# Altium schematic symbol library dungvh03-CERN_Connectors.SchLib: 576 symbols (part 7 of 8)
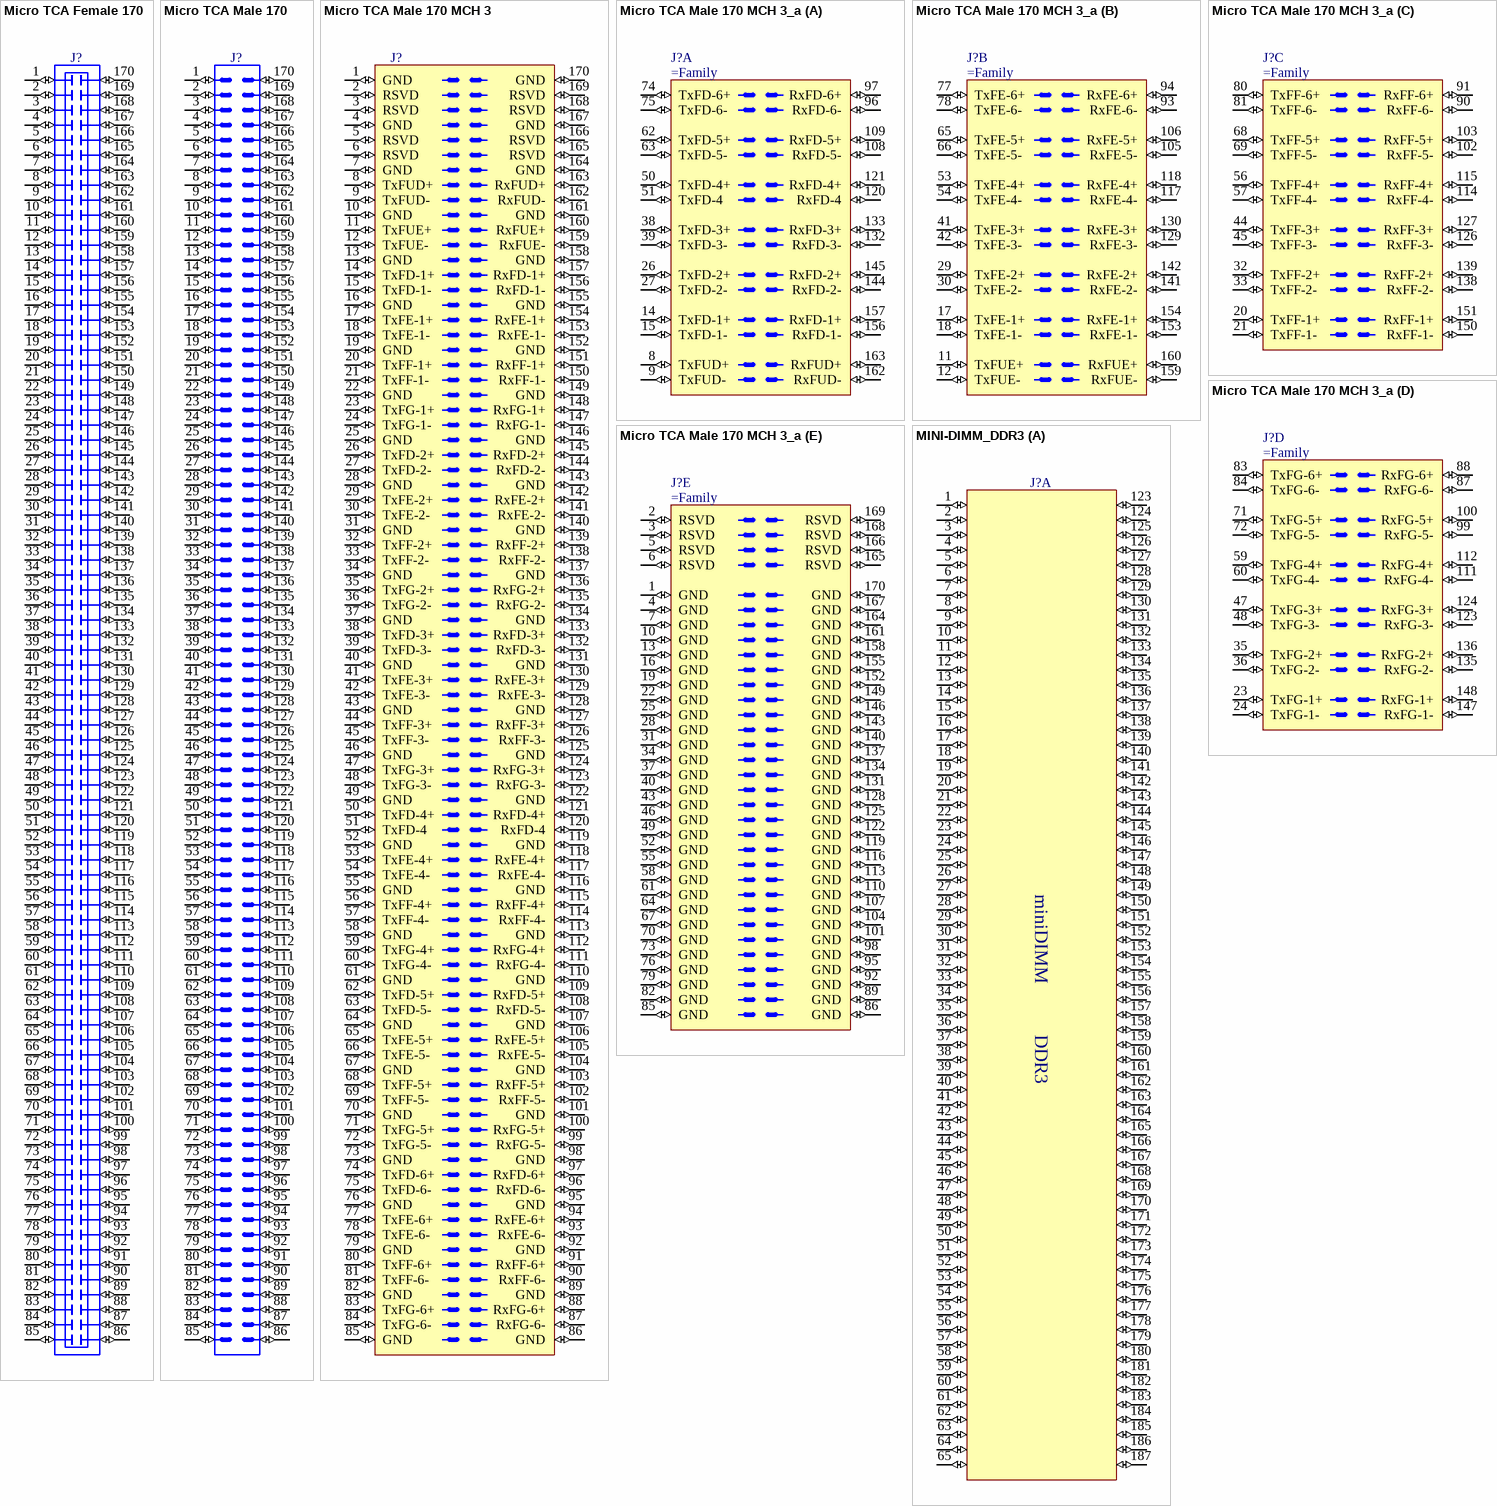
[diagram p81: symbols Micro TCA Female 170 to MINI-DIMM_DDR3]

## Micro TCA Male 170 MCH 3
designator J?
170 Contact MicroTCA Carrier Hub (MCH) Board Edge Connector 3
pins: 1 GND (io), 2 RSVD (io), 3 RSVD (io), 4 GND (io), 5 RSVD (io), 6 RSVD (io), 7 GND (io), 8 TxFUD+ (io), 9 TxFUD- (io), 10 GND (io), 11 TxFUE+ (io), 12 TxFUE- (io), 13 GND (io), 14 TxFD-1+ (io), 15 TxFD-1- (io), 16 GND (io), 17 TxFE-1+ (io), 18 TxFE-1- (io), 19 GND (io), 20 TxFF-1+ (io), 21 TxFF-1- (io), 22 GND (io), 23 TxFG-1+ (io), 24 TxFG-1- (io), 25 GND (io), 26 TxFD-2+ (io), 27 TxFD-2- (io), 28 GND (io), 29 TxFE-2+ (io), 30 TxFE-2- (io), 31 GND (io), 32 TxFF-2+ (io), 33 TxFF-2- (io), 34 GND (io), 35 TxFG-2+ (io), 36 TxFG-2- (io), 37 GND (io), 38 TxFD-3+ (io), 39 TxFD-3- (io), 40 GND (io), 41 TxFE-3+ (io), 42 TxFE-3- (io), 43 GND (io), 44 TxFF-3+ (io), 45 TxFF-3- (io), 46 GND (io), 47 TxFG-3+ (io), 48 TxFG-3- (io), 49 GND (io), 50 TxFD-4+ (io), 51 TxFD-4 (io), 52 GND (io), 53 TxFE-4+ (io), 54 TxFE-4- (io), 55 GND (io), 56 TxFF-4+ (io), 57 TxFF-4- (io), 58 GND (io), 59 TxFG-4+ (io), 60 TxFG-4- (io), 61 GND (io), 62 TxFD-5+ (io), 63 TxFD-5- (io), 64 GND (io), 65 TxFE-5+ (io), 66 TxFE-5- (io), 67 GND (io), 68 TxFF-5+ (io), 69 TxFF-5- (io), 70 GND (io), 71 TxFG-5+ (io), 72 TxFG-5- (io), 73 GND (io), 74 TxFD-6+ (io), 75 TxFD-6- (io), 76 GND (io), 77 TxFE-6+ (io), 78 TxFE-6- (io), 79 GND (io), 80 TxFF-6+ (io), 81 TxFF-6- (io), 82 GND (io), 83 TxFG-6+ (io), 84 TxFG-6- (io), 85 GND (io), 86 GND (io), 87 RxFG-6- (io), 88 RxFG-6+ (io), 89 GND (io), 90 RxFF-6- (io), 91 RxFF-6+ (io), 92 GND (io), 93 RxFE-6- (io), 94 RxFE-6+ (io), 95 GND (io), 96 RxFD-6- (io), 97 RxFD-6+ (io), 98 GND (io), 99 RxFG-5- (io), 100 RxFG-5+ (io), 101 GND (io), 102 RxFF-5- (io), 103 RxFF-5+ (io), 104 GND (io), 105 RxFE-5- (io), 106 RxFE-5+ (io), 107 GND (io), 108 RxFD-5- (io), 109 RxFD-5+ (io), 110 GND (io), 111 RxFG-4- (io), 112 RxFG-4+ (io), 113 GND (io), 114 RxFF-4- (io), 115 RxFF-4+ (io), 116 GND (io), 117 RxFE-4- (io), 118 RxFE-4+ (io), 119 GND (io), 120 RxFD-4 (io), 121 RxFD-4+ (io), 122 GND (io), 123 RxFG-3- (io), 124 RxFG-3+ (io), 125 GND (io), 126 RxFF-3- (io), 127 RxFF-3+ (io), 128 GND (io), 129 RxFE-3- (io), 130 RxFE-3+ (io), 131 GND (io), 132 RxFD-3- (io), 133 RxFD-3+ (io), 134 GND (io), 135 RxFG-2- (io), 136 RxFG-2+ (io), 137 GND (io), 138 RxFF-2- (io), 139 RxFF-2+ (io), 140 GND (io), 141 RxFE-2- (io), 142 RxFE-2+ (io), 143 GND (io), 144 RxFD-2- (io), 145 RxFD-2+ (io), 146 GND (io), 147 RxFG-1- (io), 148 RxFG-1+ (io), 149 GND (io), 150 RxFF-1- (io), 151 RxFF-1+ (io), 152 GND (io), 153 RxFE-1- (io), 154 RxFE-1+ (io), 155 GND (io), 156 RxFD-1- (io), 157 RxFD-1+ (io), 158 GND (io), 159 RxFUE- (io), 160 RxFUE+ (io), 161 GND (io), 162 RxFUD- (io), 163 RxFUD+ (io), 164 GND (io), 165 RSVD (io), 166 RSVD (io), 167 GND (io), 168 RSVD (io), 169 RSVD (io), 170 GND (io)

## Micro TCA Male 170 MCH 3_a
designator J?
170 Contact MicroTCA Carrier Hub (MCH) Board Edge Connector 3
part A pins: 8 TxFUD+ (io), 9 TxFUD- (io), 14 TxFD-1+ (io), 15 TxFD-1- (io), 26 TxFD-2+ (io), 27 TxFD-2- (io), 38 TxFD-3+ (io), 39 TxFD-3- (io), 50 TxFD-4+ (io), 51 TxFD-4 (io), 62 TxFD-5+ (io), 63 TxFD-5- (io), 74 TxFD-6+ (io), 75 TxFD-6- (io), 96 RxFD-6- (io), 97 RxFD-6+ (io), 108 RxFD-5- (io), 109 RxFD-5+ (io), 120 RxFD-4 (io), 121 RxFD-4+ (io), 132 RxFD-3- (io), 133 RxFD-3+ (io), 144 RxFD-2- (io), 145 RxFD-2+ (io), 156 RxFD-1- (io), 157 RxFD-1+ (io), 162 RxFUD- (io), 163 RxFUD+ (io)
part B pins: 11 TxFUE+ (io), 12 TxFUE- (io), 17 TxFE-1+ (io), 18 TxFE-1- (io), 29 TxFE-2+ (io), 30 TxFE-2- (io), 41 TxFE-3+ (io), 42 TxFE-3- (io), 53 TxFE-4+ (io), 54 TxFE-4- (io), 65 TxFE-5+ (io), 66 TxFE-5- (io), 77 TxFE-6+ (io), 78 TxFE-6- (io), 93 RxFE-6- (io), 94 RxFE-6+ (io), 105 RxFE-5- (io), 106 RxFE-5+ (io), 117 RxFE-4- (io), 118 RxFE-4+ (io), 129 RxFE-3- (io), 130 RxFE-3+ (io), 141 RxFE-2- (io), 142 RxFE-2+ (io), 153 RxFE-1- (io), 154 RxFE-1+ (io), 159 RxFUE- (io), 160 RxFUE+ (io)
part C pins: 20 TxFF-1+ (io), 21 TxFF-1- (io), 32 TxFF-2+ (io), 33 TxFF-2- (io), 44 TxFF-3+ (io), 45 TxFF-3- (io), 56 TxFF-4+ (io), 57 TxFF-4- (io), 68 TxFF-5+ (io), 69 TxFF-5- (io), 80 TxFF-6+ (io), 81 TxFF-6- (io), 90 RxFF-6- (io), 91 RxFF-6+ (io), 102 RxFF-5- (io), 103 RxFF-5+ (io), 114 RxFF-4- (io), 115 RxFF-4+ (io), 126 RxFF-3- (io), 127 RxFF-3+ (io), 138 RxFF-2- (io), 139 RxFF-2+ (io), 150 RxFF-1- (io), 151 RxFF-1+ (io)
part D pins: 23 TxFG-1+ (io), 24 TxFG-1- (io), 35 TxFG-2+ (io), 36 TxFG-2- (io), 47 TxFG-3+ (io), 48 TxFG-3- (io), 59 TxFG-4+ (io), 60 TxFG-4- (io), 71 TxFG-5+ (io), 72 TxFG-5- (io), 83 TxFG-6+ (io), 84 TxFG-6- (io), 87 RxFG-6- (io), 88 RxFG-6+ (io), 99 RxFG-5- (io), 100 RxFG-5+ (io), 111 RxFG-4- (io), 112 RxFG-4+ (io), 123 RxFG-3- (io), 124 RxFG-3+ (io), 135 RxFG-2- (io), 136 RxFG-2+ (io), 147 RxFG-1- (io), 148 RxFG-1+ (io)
part E pins: 1 GND (io), 2 RSVD (io), 3 RSVD (io), 4 GND (io), 5 RSVD (io), 6 RSVD (io), 7 GND (io), 10 GND (io), 13 GND (io), 16 GND (io), 19 GND (io), 22 GND (io), 25 GND (io), 28 GND (io), 31 GND (io), 34 GND (io), 37 GND (io), 40 GND (io), 43 GND (io), 46 GND (io), 49 GND (io), 52 GND (io), 55 GND (io), 58 GND (io), 61 GND (io), 64 GND (io), 67 GND (io), 70 GND (io), 73 GND (io), 76 GND (io), 79 GND (io), 82 GND (io), 85 GND (io), 86 GND (io), 89 GND (io), 92 GND (io), 95 GND (io), 98 GND (io), 101 GND (io), 104 GND (io), 107 GND (io), 110 GND (io), 113 GND (io), 116 GND (io), 119 GND (io), 122 GND (io), 125 GND (io), 128 GND (io), 131 GND (io), 134 GND (io), 137 GND (io), 140 GND (io), 143 GND (io), 146 GND (io), 149 GND (io), 152 GND (io), 155 GND (io), 158 GND (io), 161 GND (io), 164 GND (io), 165 RSVD (io), 166 RSVD (io), 167 GND (io), 168 RSVD (io), 169 RSVD (io), 170 GND (io)

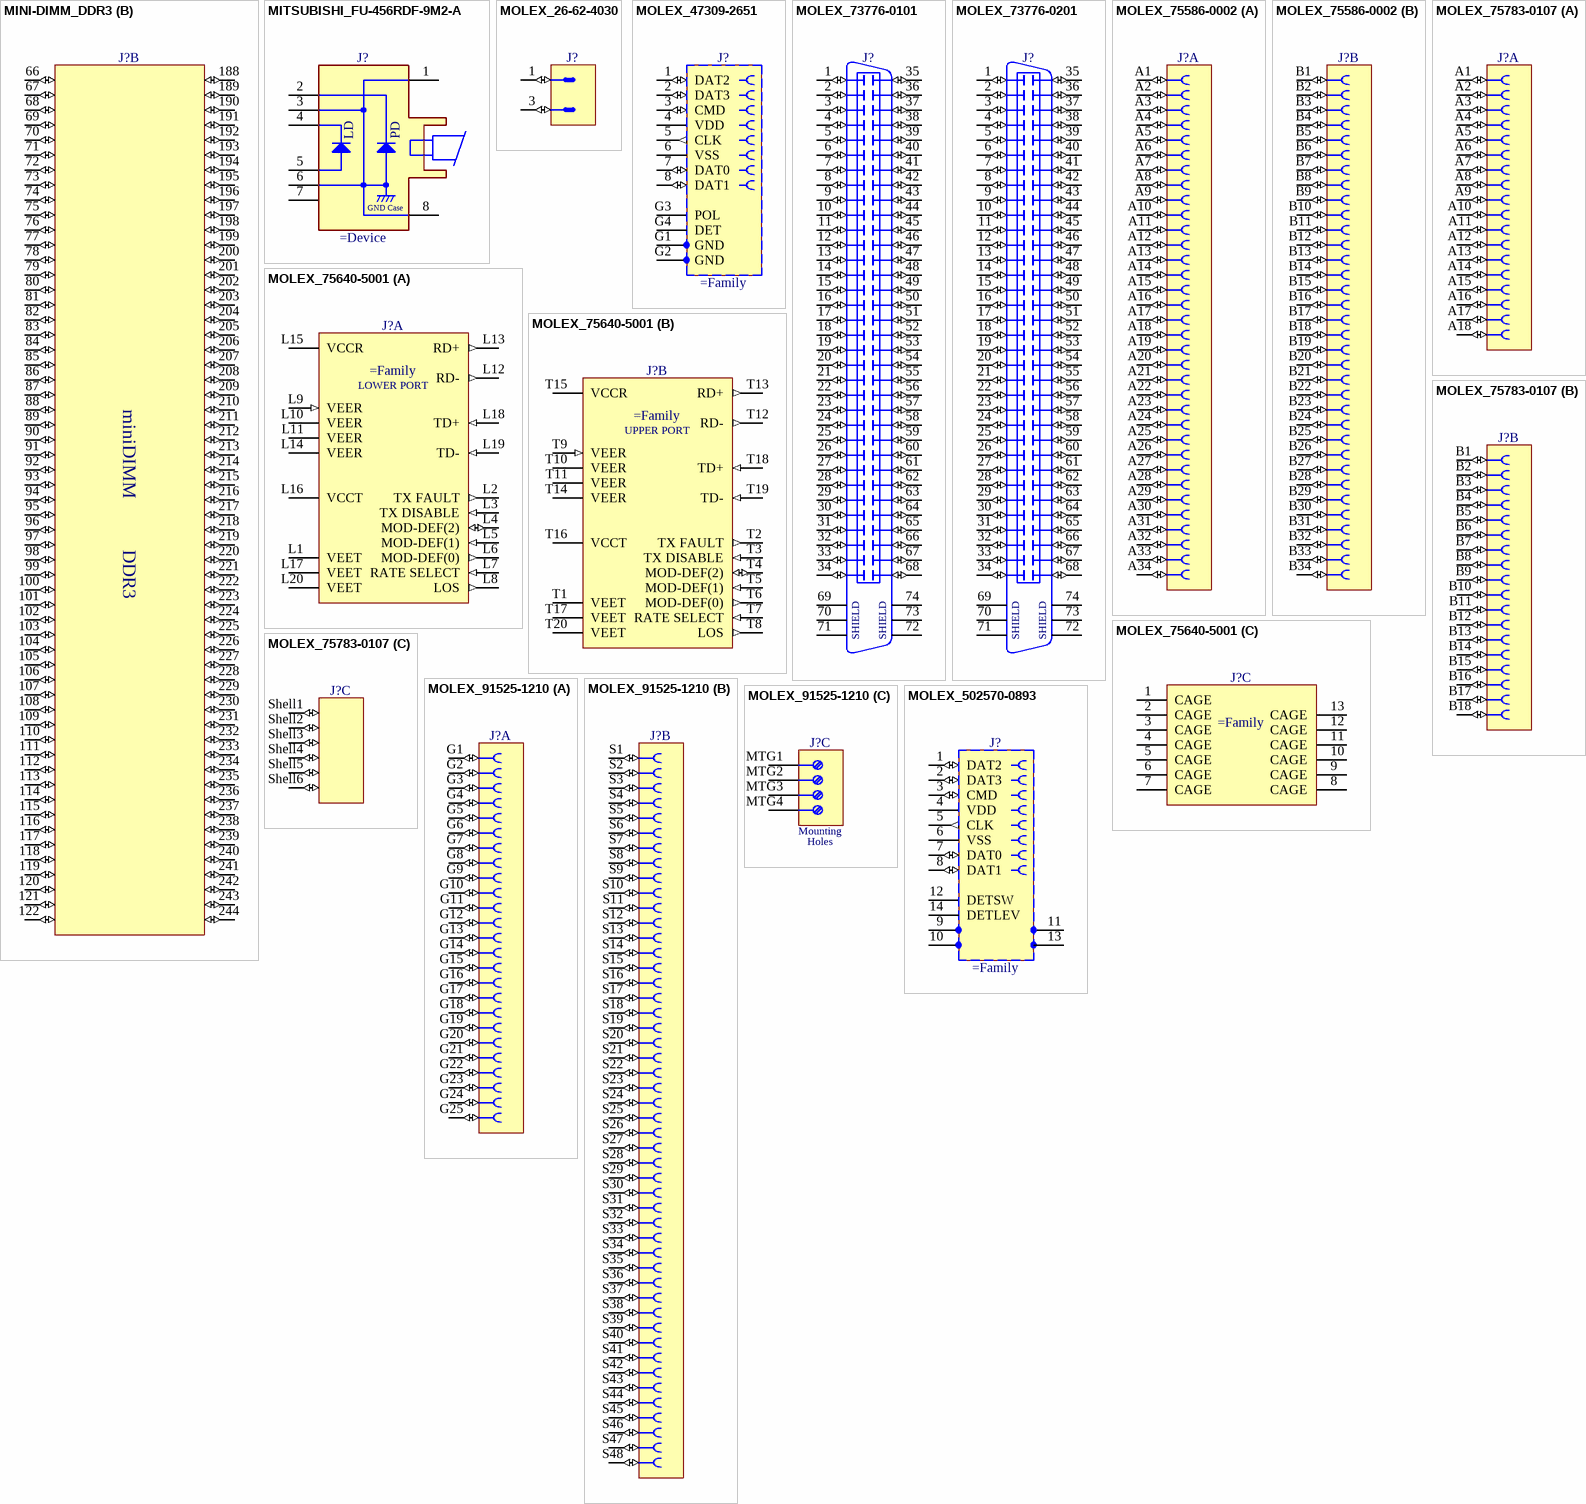
[diagram p62: symbols MINI-DIMM_DDR3 to MOLEX_502570-0893]

## MINI-DIMM_DDR3
designator J?
244 Contacts miniDIMM DDR3 (Jedec MO-244)
part A pins: 1 VTT (io), 2 VREFDQ (io), 3 VSS (io), 4 DQ0 (io), 5 DQ1 (io), 6 VSS (io), 7 ~{DQS0} (io), 8 DQS0 (io), 9 VSS (io), 10 DQ2 (io), 11 DQ3 (io), 12 VSS (io), 13 DQ8 (io), 14 DQ9 (io), 15 VSS (io), 16 ~{DQS1} (io), 17 DQS1 (io), 18 VSS (io), 19 DQ10 (io), 20 DQ11 (io), 21 VSS (io), 22 DQ16 (io), 23 DQ17 (io), 24 VSS (io), 25 ~{DQS2} (io), 26 DQS2 (io), 27 VSS (io), 28 DQ18 (io), 29 DQ19 (io), 30 VSS (io), 31 DQ24 (io), 32 DQ25 (io), 33 VSS (io), 34 ~{DQS3} (io), 35 DQS3 (io), 36 VSS (io), 37 DQ26 (io), 38 DQ27 (io), 39 VSS (io), 40 CB0 (io), 41 CB1 (io), 42 VSS (io), 43 ~{DQS8} (io), 44 DQS8 (io), 45 VSS (io), 46 CB2 (io), 47 CB3 (io), 48 VSS (io), 49 NC (io), 50 ~{RESET} (io), 51 CKE0 (io), 52 VDD (io), 53 BA2 (io), 54 NC (io), 55 VDD (io), 56 A11 (io), 57 A7 (io), 58 VDD (io), 59 A5 (io), 60 A4 (io), 61 VDD (io), 62 A2 (io), 63 VDD (io), 64 CK1 (io), 65 ~{CK1} (io), 123 VTT (io), 124 VSS (io), 125 DQ4 (io), 126 DQ5 (io), 127 VSS (io), 128 DM0 (io), 129 NC (io), 130 VSS (io), 131 DQ6 (io), 132 DQ7 (io), 133 VSS (io), 134 DQ12 (io), 135 DQ13 (io), 136 VSS (io), 137 DM1 (io), 138 NC (io), 139 VSS (io), 140 DQ14 (io), 141 DQ15 (io), 142 VSS (io), 143 DQ20 (io), 144 DQ21 (io), 145 VSS (io), 146 DM2 (io), 147 NC (io), 148 VSS (io), 149 DQ22 (io), 150 DQ23 (io), 151 VSS (io), 152 DQ28 (io), 153 DQ29 (io), 154 VSS (io), 155 DM3 (io), 156 NC (io), 157 VSS (io), 158 DQ30 (io), 159 DQ31 (io), 160 VSS (io), 161 CB4 (io), 162 CB5 (io), 163 VSS (io), 164 DM8 (io), 165 NC (io), 166 VSS (io), 167 CB6 (io), 168 CB7 (io), 169 VSS (io), 170 NC (io), 171 NC (io), 172 CKE1 (io), 173 VDD (io), 174 A15 (io), 175 A14 (io), 176 VDD (io), 177 A12 (io), 178 A9 (io), 179 VDD (io), 180 A8 (io), 181 A6 (io), 182 VDD (io), 183 A3 (io), 184 A1 (io), 185 VDD (io), 186 CK0 (io), 187 ~{CK0} (io)
part B pins: 66 VDD (io), 67 VREFCA (io), 68 VDD (io), 69 NC (io), 70 VDD (io), 71 A10 (io), 72 BA0 (io), 73 VDD (io), 74 ~{WE} (io), 75 ~{CAS} (io), 76 VDD (io), 77 ~{CS1} (io), 78 ODT1 (io), 79 VDD (io), 80 NC (io), 81 NC (io), 82 VSS (io), 83 DQ32 (io), 84 DQ33 (io), 85 VSS (io), 86 ~{DQS4} (io), 87 DQS4 (io), 88 VSS (io), 89 DQ34 (io), 90 DQ35 (io), 91 VSS (io), 92 DQ40 (io), 93 DQ41 (io), 94 VSS (io), 95 ~{DQS5} (io), 96 DQS5 (io), 97 VSS (io), 98 DQ42 (io), 99 DQ43 (io), 100 VSS (io), 101 DQ48 (io), 102 DQ49 (io), 103 VSS (io), 104 ~{DQS6} (io), 105 DQS6 (io), 106 VSS (io), 107 DQ50 (io), 108 DQ51 (io), 109 VSS (io), 110 DQ56 (io), 111 DQ57 (io), 112 VSS (io), 113 ~{DQS7} (io), 114 DQS7 (io), 115 VSS (io), 116 DQ58 (io), 117 DQ59 (io), 118 VSS (io), 119 SA0 (io), 120 SCL (io), 121 SA2 (io), 122 VTT (io), 188 VDD (io), 189 VDD (io), 190 ~{EVENT} (io), 191 A0 (io), 192 VDD (io), 193 BA1 (io), 194 VDD (io), 195 ~{RAS} (io), 196 ~{CS0} (io), 197 VDD (io), 198 ODT0 (io), 199 A13 (io), 200 VDD (io), 201 NC (io), 202 NC (io), 203 VSS (io), 204 DQ36 (io), 205 DQ37 (io), 206 VSS (io), 207 DM4 (io), 208 NC (io), 209 VSS (io), 210 DQ38 (io), 211 DQ39 (io), 212 VSS (io), 213 DQ44 (io), 214 DQ45 (io), 215 VSS (io), 216 DM5 (io), 217 NC (io), 218 VSS (io), 219 DQ46 (io), 220 DQ47 (io), 221 VSS (io), 222 DQ52 (io), 223 DQ53 (io), 224 VSS (io), 225 DM6 (io), 226 NC (io), 227 VSS (io), 228 DQ54 (io), 229 DQ55 (io), 230 VSS (io), 231 DQ60 (io), 232 DQ61 (io), 233 VSS (io), 234 DM7 (io), 235 NC (io), 236 VSS (io), 237 DQ62 (io), 238 DQ63 (io), 239 VSS (io), 240 VDDSPD (io), 241 SA1 (io), 242 SDA (io), 243 VSS (io), 244 VTT (io)
1 alternate drawing of the same symbol
part A text: miniDIMM; DDR3
part B text: miniDIMM; DDR3

## MITSUBISHI_FU-456RDF-9M2-A
designator J?
10Gbps DFB-LD Transmitter Optical Sub Assembly (TOSA) Laser Modules
pins: 1, 2, 3, 4, 5, 6, 7, 8
text: LD; PD; GND Case

## MOLEX_26-62-4030
designator J?
Connector 3 Male Without Contact Number 2, MOLEX Serie KK
pins: 1 (io), 3 (io)
1 alternate drawing of the same symbol

## MOLEX_47309-2651
designator J?
MicroSD Card Header with Detect Switch
pins: 1 DAT2 (io), 2 DAT3 (io), 3 CMD (io), 4 VDD (power), 5 CLK (out), 6 VSS (power), 7 DAT0 (io), 8 DAT1 (io), G1 GND, G2 GND, G3 POL, G4 DET

## MOLEX_73776-0101
designator J?
0.80mm Pitch, 68 Contacts, Ultra+ VHDCI Surface Mount Vertical Receptacle
pins: 1 (io), 2 (io), 3 (io), 4 (io), 5 (io), 6 (io), 7 (io), 8 (io), 9 (io), 10 (io), 11 (io), 12 (io), 13 (io), 14 (io), 15 (io), 16 (io), 17 (io), 18 (io), 19 (io), 20 (io), 21 (io), 22 (io), 23 (io), 24 (io), 25 (io), 26 (io), 27 (io), 28 (io), 29 (io), 30 (io), 31 (io), 32 (io), 33 (io), 34 (io), 35 (io), 36 (io), 37 (io), 38 (io), 39 (io), 40 (io), 41 (io), 42 (io), 43 (io), 44 (io), 45 (io), 46 (io), 47 (io), 48 (io), 49 (io), 50 (io), 51 (io), 52 (io), 53 (io), 54 (io), 55 (io), 56 (io), 57 (io), 58 (io), 59 (io), 60 (io), 61 (io), 62 (io), 63 (io), 64 (io), 65 (io), 66 (io), 67 (io), 68 (io), 69, 70, 71, 72, 73, 74
text: SHIELD

## MOLEX_73776-0201
designator J?
0.80mm Pitch, 68 Contacts, Ultra+ VHDCI Surface Mount Vertical Receptacle
pins: 1 (io), 2 (io), 3 (io), 4 (io), 5 (io), 6 (io), 7 (io), 8 (io), 9 (io), 10 (io), 11 (io), 12 (io), 13 (io), 14 (io), 15 (io), 16 (io), 17 (io), 18 (io), 19 (io), 20 (io), 21 (io), 22 (io), 23 (io), 24 (io), 25 (io), 26 (io), 27 (io), 28 (io), 29 (io), 30 (io), 31 (io), 32 (io), 33 (io), 34 (io), 35 (io), 36 (io), 37 (io), 38 (io), 39 (io), 40 (io), 41 (io), 42 (io), 43 (io), 44 (io), 45 (io), 46 (io), 47 (io), 48 (io), 49 (io), 50 (io), 51 (io), 52 (io), 53 (io), 54 (io), 55 (io), 56 (io), 57 (io), 58 (io), 59 (io), 60 (io), 61 (io), 62 (io), 63 (io), 64 (io), 65 (io), 66 (io), 67 (io), 68 (io), 69, 70, 71, 72, 73, 74
text: SHIELD

## MOLEX_75586-0002
designator J?
68 Circuits, Pitch 0.8mm, External Application Right Angle iPass™ I/O Surface Mount Receptacle
part A pins: A1 (io), A2 (io), A3 (io), A4 (io), A5 (io), A6 (io), A7 (io), A8 (io), A9 (io), A10 (io), A11 (io), A12 (io), A13 (io), A14 (io), A15 (io), A16 (io), A17 (io), A18 (io), A19 (io), A20 (io), A21 (io), A22 (io), A23 (io), A24 (io), A25 (io), A26 (io), A27 (io), A28 (io), A29 (io), A30 (io), A31 (io), A32 (io), A33 (io), A34 (io)
part B pins: B1 (io), B2 (io), B3 (io), B4 (io), B5 (io), B6 (io), B7 (io), B8 (io), B9 (io), B10 (io), B11 (io), B12 (io), B13 (io), B14 (io), B15 (io), B16 (io), B17 (io), B18 (io), B19 (io), B20 (io), B21 (io), B22 (io), B23 (io), B24 (io), B25 (io), B26 (io), B27 (io), B28 (io), B29 (io), B30 (io), B31 (io), B32 (io), B33 (io), B34 (io)

## MOLEX_75640-5001
designator J?
Dual 20 Positions Stacked SFP (Small Form-factor Pluggable) Receptacles with 4 Light Pipes, Medium Height Assembly, Press Fit Tails
part A pins: L1 VEET (power), L2 TX FAULT (out), L3 TX DISABLE (in), L4 MOD-DEF(2) (io), L5 MOD-DEF(1) (in), L6 MOD-DEF(0) (out), L7 RATE SELECT (in), L8 LOS (out), L9 VEER (in), L10 VEER (power), L11 VEER (power), L12 RD- (out), L13 RD+ (out), L14 VEER (power), L15 VCCR (power), L16 VCCT (power), L17 VEET (power), L18 TD+ (in), L19 TD- (in), L20 VEET (power)
part B pins: T1 VEET (power), T2 TX FAULT (out), T3 TX DISABLE (in), T4 MOD-DEF(2) (io), T5 MOD-DEF(1) (in), T6 MOD-DEF(0) (out), T7 RATE SELECT (in), T8 LOS (out), T9 VEER (in), T10 VEER (power), T11 VEER (power), T12 RD- (out), T13 RD+ (out), T14 VEER (power), T15 VCCR (power), T16 VCCT (power), T17 VEET (power), T18 TD+ (in), T19 TD- (in), T20 VEET (power)
part C pins: 1 CAGE (power), 2 CAGE (power), 3 CAGE (power), 4 CAGE (power), 5 CAGE (power), 6 CAGE (power), 7 CAGE (power), 8 CAGE (power), 9 CAGE (power), 10 CAGE (power), 11 CAGE (power), 12 CAGE (power), 13 CAGE (power)
part A text: LOWER PORT
part B text: UPPER PORT

## MOLEX_75783-0107
designator J?
36 Circuit, Right Angle , Internal Assembly, iPass™ I/O Surface Mount Receptacle with Left Key Shell
part A pins: A1 (io), A2 (io), A3 (io), A4 (io), A5 (io), A6 (io), A7 (io), A8 (io), A9 (io), A10 (io), A11 (io), A12 (io), A13 (io), A14 (io), A15 (io), A16 (io), A17 (io), A18 (io)
part B pins: B1 (io), B2 (io), B3 (io), B4 (io), B5 (io), B6 (io), B7 (io), B8 (io), B9 (io), B10 (io), B11 (io), B12 (io), B13 (io), B14 (io), B15 (io), B16 (io), B17 (io), B18 (io)
part C pins: Shell1 (io), Shell2 (io), Shell3 (io), Shell4 (io), Shell5 (io), Shell6 (io)

## MOLEX_91525-1210
designator J?
LaneLink I/O Latch Receptacle, 12 Lane, Cx4 Ethernet, 24 Circuits, 2 Screw Holes
part A pins: G1 (io), G2 (io), G3 (io), G4 (io), G5 (io), G6 (io), G7 (io), G8 (io), G9 (io), G10 (io), G11 (io), G12 (io), G13 (io), G14 (io), G15 (io), G16 (io), G17 (io), G18 (io), G19 (io), G20 (io), G21 (io), G22 (io), G23 (io), G24 (io), G25 (io)
part B pins: S1 (io), S2 (io), S3 (io), S4 (io), S5 (io), S6 (io), S7 (io), S8 (io), S9 (io), S10 (io), S11 (io), S12 (io), S13 (io), S14 (io), S15 (io), S16 (io), S17 (io), S18 (io), S19 (io), S20 (io), S21 (io), S22 (io), S23 (io), S24 (io), S25 (io), S26 (io), S27 (io), S28 (io), S29 (io), S30 (io), S31 (io), S32 (io), S33 (io), S34 (io), S35 (io), S36 (io), S37 (io), S38 (io), S39 (io), S40 (io), S41 (io), S42 (io), S43 (io), S44 (io), S45 (io), S46 (io), S47 (io), S48 (io)
part C pins: MTG1, MTG2, MTG3, MTG4
part C text: Mounting; Holes

## MOLEX_502570-0893
designator J?
Connector MicroSD 8 Pin
pins: 1 DAT2 (io), 2 DAT3 (io), 3 CMD (io), 4 VDD (power), 5 CLK (out), 6 VSS (power), 7 DAT0 (io), 8 DAT1 (io), 9, 10, 11, 12 DETSW, 13, 14 DETLEV

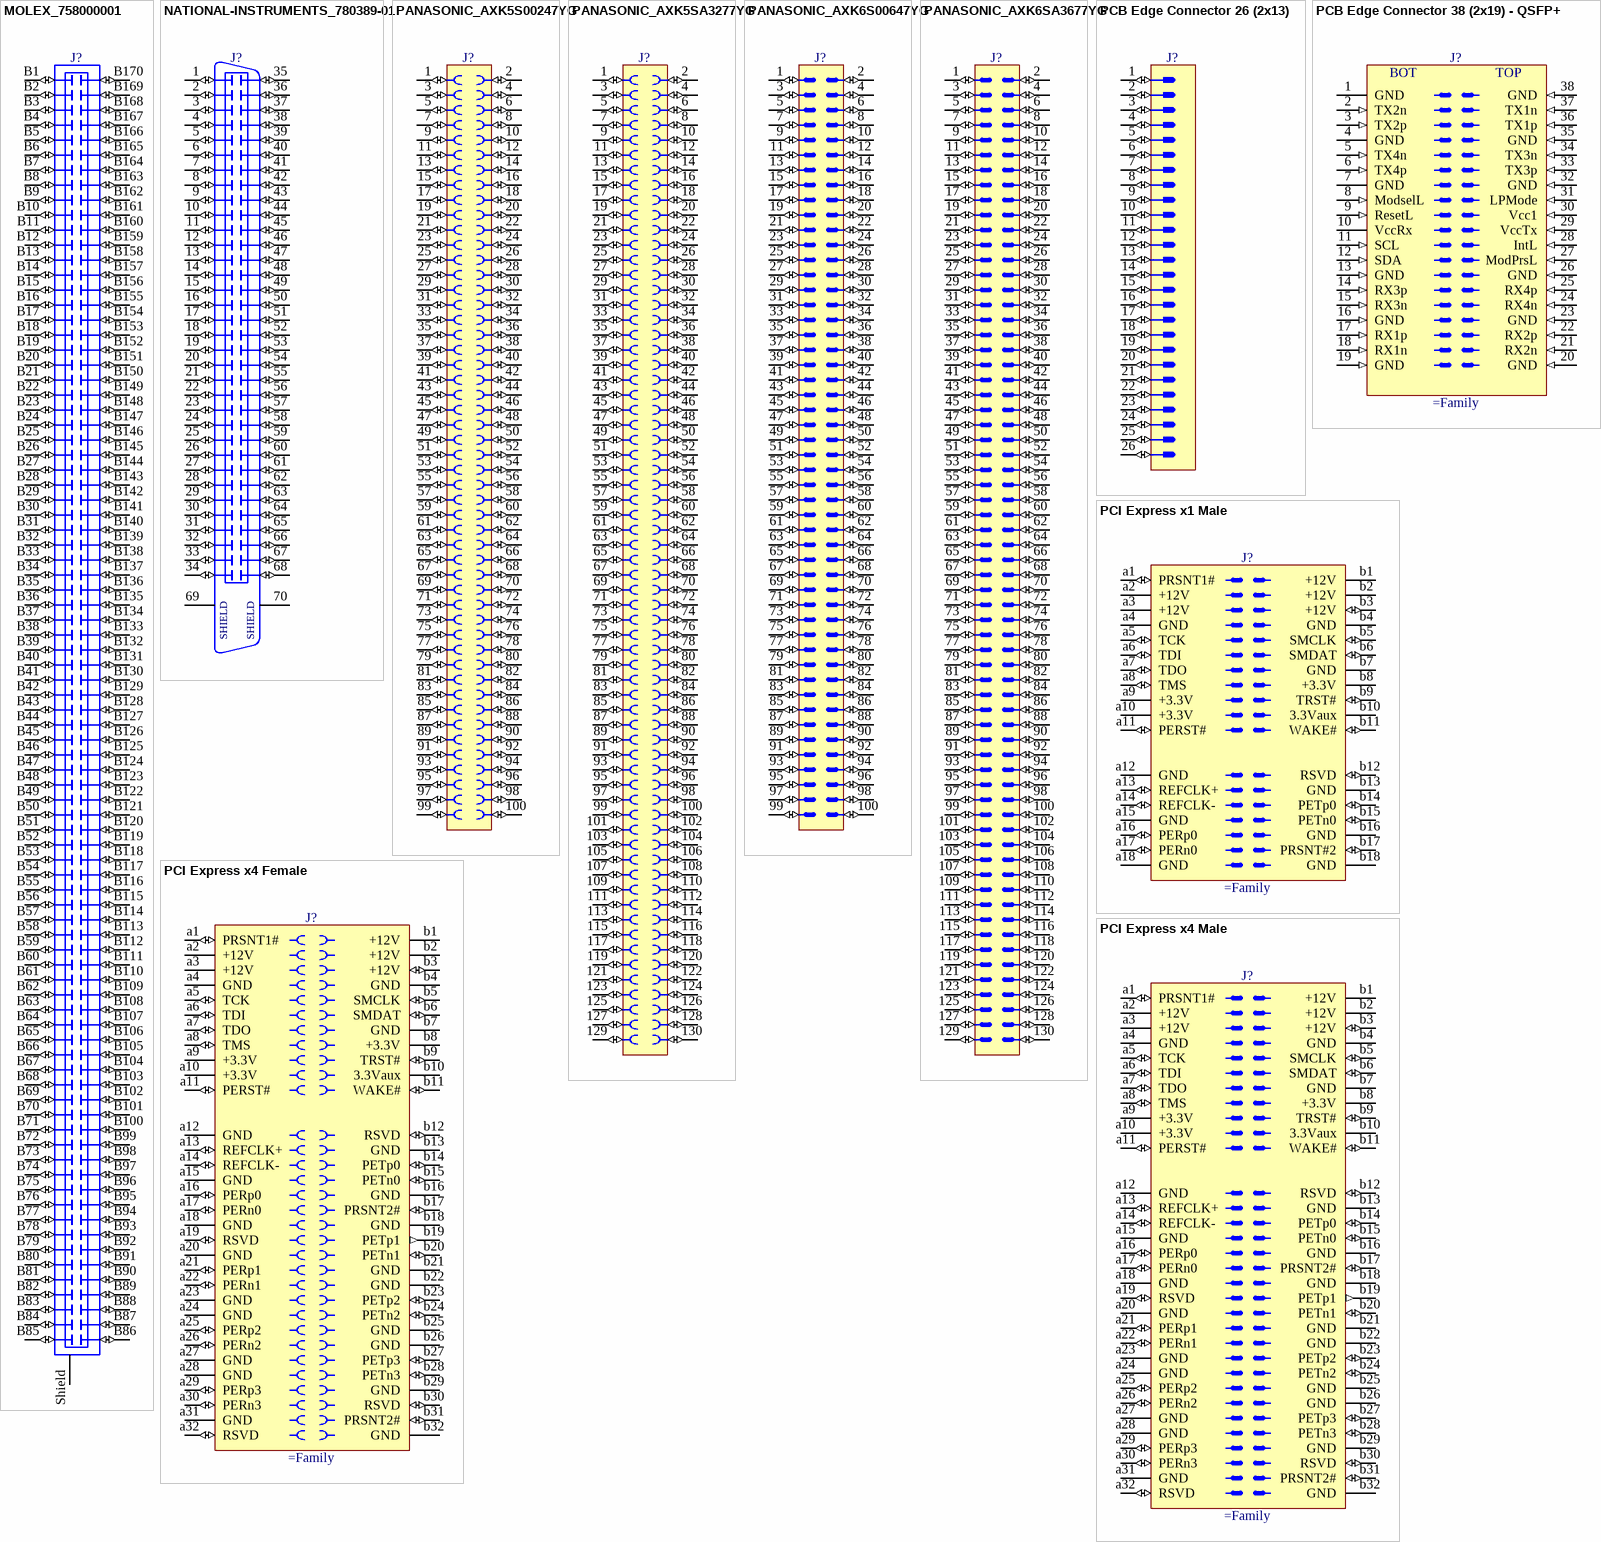
[diagram p63: symbols MOLEX_758000001 to PCI Express x4 Male]

## MOLEX_758000001
designator J?
Advanced Mezzanine Card Connector, AMC B+ Style, 170 Circuit
pins: B1 (io), B2 (io), B3 (io), B4 (io), B5 (io), B6 (io), B7 (io), B8 (io), B9 (io), B10 (io), B11 (io), B12 (io), B13 (io), B14 (io), B15 (io), B16 (io), B17 (io), B18 (io), B19 (io), B20 (io), B21 (io), B22 (io), B23 (io), B24 (io), B25 (io), B26 (io), B27 (io), B28 (io), B29 (io), B30 (io), B31 (io), B32 (io), B33 (io), B34 (io), B35 (io), B36 (io), B37 (io), B38 (io), B39 (io), B40 (io), B41 (io), B42 (io), B43 (io), B44 (io), B45 (io), B46 (io), B47 (io), B48 (io), B49 (io), B50 (io), B51 (io), B52 (io), B53 (io), B54 (io), B55 (io), B56 (io), B57 (io), B58 (io), B59 (io), B60 (io), B61 (io), B62 (io), B63 (io), B64 (io), B65 (io), B66 (io), B67 (io), B68 (io), B69 (io), B70 (io), B71 (io), B72 (io), B73 (io), B74 (io), B75 (io), B76 (io), B77 (io), B78 (io), B79 (io), B80 (io), B81 (io), B82 (io), B83 (io), B84 (io), B85 (io), B86 (io), B87 (io), B88 (io), B89 (io), B90 (io), B91 (io), B92 (io), B93 (io), B94 (io), B95 (io), B96 (io), B97 (io), B98 (io), B99 (io), B100 (io), B101 (io), B102 (io), B103 (io), B104 (io), B105 (io), B106 (io), B107 (io), B108 (io), B109 (io), B110 (io), B111 (io), B112 (io), B113 (io), B114 (io), B115 (io), B116 (io), B117 (io), B118 (io), B119 (io), B120 (io), B121 (io), B122 (io), B123 (io), B124 (io), B125 (io), B126 (io), B127 (io), B128 (io), B129 (io), B130 (io), B131 (io), B132 (io), B133 (io), B134 (io), B135 (io), B136 (io), B137 (io), B138 (io), B139 (io), B140 (io), B141 (io), B142 (io), B143 (io), B144 (io), B145 (io), B146 (io), B147 (io), B148 (io), B149 (io), B150 (io), B151 (io), B152 (io), B153 (io), B154 (io), B155 (io), B156 (io), B157 (io), B158 (io), B159 (io), B160 (io), B161 (io), B162 (io), B163 (io), B164 (io), B165 (io), B166 (io), B167 (io), B168 (io), B169 (io), B170 (io), Shield

## NATIONAL-INSTRUMENTS_780389-01
designator J?
68 Positions, Pitch 0.8mm, Very Hight Density Vertical VHDCI Receptacle
pins: 1 (io), 2 (io), 3 (io), 4 (io), 5 (io), 6 (io), 7 (io), 8 (io), 9 (io), 10 (io), 11 (io), 12 (io), 13 (io), 14 (io), 15 (io), 16 (io), 17 (io), 18 (io), 19 (io), 20 (io), 21 (io), 22 (io), 23 (io), 24 (io), 25 (io), 26 (io), 27 (io), 28 (io), 29 (io), 30 (io), 31 (io), 32 (io), 33 (io), 34 (io), 35 (io), 36 (io), 37 (io), 38 (io), 39 (io), 40 (io), 41 (io), 42 (io), 43 (io), 44 (io), 45 (io), 46 (io), 47 (io), 48 (io), 49 (io), 50 (io), 51 (io), 52 (io), 53 (io), 54 (io), 55 (io), 56 (io), 57 (io), 58 (io), 59 (io), 60 (io), 61 (io), 62 (io), 63 (io), 64 (io), 65 (io), 66 (io), 67 (io), 68 (io), 69, 70
text: SHIELD

## PANASONIC_AXK5S00247YG
designator J?
100 Contacts Socket PANASONIC P5KS Serie
pins: 1 (io), 2 (io), 3 (io), 4 (io), 5 (io), 6 (io), 7 (io), 8 (io), 9 (io), 10 (io), 11 (io), 12 (io), 13 (io), 14 (io), 15 (io), 16 (io), 17 (io), 18 (io), 19 (io), 20 (io), 21 (io), 22 (io), 23 (io), 24 (io), 25 (io), 26 (io), 27 (io), 28 (io), 29 (io), 30 (io), 31 (io), 32 (io), 33 (io), 34 (io), 35 (io), 36 (io), 37 (io), 38 (io), 39 (io), 40 (io), 41 (io), 42 (io), 43 (io), 44 (io), 45 (io), 46 (io), 47 (io), 48 (io), 49 (io), 50 (io), 51 (io), 52 (io), 53 (io), 54 (io), 55 (io), 56 (io), 57 (io), 58 (io), 59 (io), 60 (io), 61 (io), 62 (io), 63 (io), 64 (io), 65 (io), 66 (io), 67 (io), 68 (io), 69 (io), 70 (io), 71 (io), 72 (io), 73 (io), 74 (io), 75 (io), 76 (io), 77 (io), 78 (io), 79 (io), 80 (io), 81 (io), 82 (io), 83 (io), 84 (io), 85 (io), 86 (io), 87 (io), 88 (io), 89 (io), 90 (io), 91 (io), 92 (io), 93 (io), 94 (io), 95 (io), 96 (io), 97 (io), 98 (io), 99 (io), 100 (io)

## PANASONIC_AXK5SA3277YG
designator J?
130 Contacts Socket PANASONIC P5KS Serie
pins: 1 (io), 2 (io), 3 (io), 4 (io), 5 (io), 6 (io), 7 (io), 8 (io), 9 (io), 10 (io), 11 (io), 12 (io), 13 (io), 14 (io), 15 (io), 16 (io), 17 (io), 18 (io), 19 (io), 20 (io), 21 (io), 22 (io), 23 (io), 24 (io), 25 (io), 26 (io), 27 (io), 28 (io), 29 (io), 30 (io), 31 (io), 32 (io), 33 (io), 34 (io), 35 (io), 36 (io), 37 (io), 38 (io), 39 (io), 40 (io), 41 (io), 42 (io), 43 (io), 44 (io), 45 (io), 46 (io), 47 (io), 48 (io), 49 (io), 50 (io), 51 (io), 52 (io), 53 (io), 54 (io), 55 (io), 56 (io), 57 (io), 58 (io), 59 (io), 60 (io), 61 (io), 62 (io), 63 (io), 64 (io), 65 (io), 66 (io), 67 (io), 68 (io), 69 (io), 70 (io), 71 (io), 72 (io), 73 (io), 74 (io), 75 (io), 76 (io), 77 (io), 78 (io), 79 (io), 80 (io), 81 (io), 82 (io), 83 (io), 84 (io), 85 (io), 86 (io), 87 (io), 88 (io), 89 (io), 90 (io), 91 (io), 92 (io), 93 (io), 94 (io), 95 (io), 96 (io), 97 (io), 98 (io), 99 (io), 100 (io), 101 (io), 102 (io), 103 (io), 104 (io), 105 (io), 106 (io), 107 (io), 108 (io), 109 (io), 110 (io), 111 (io), 112 (io), 113 (io), 114 (io), 115 (io), 116 (io), 117 (io), 118 (io), 119 (io), 120 (io), 121 (io), 122 (io), 123 (io), 124 (io), 125 (io), 126 (io), 127 (io), 128 (io), 129 (io), 130 (io)

## PANASONIC_AXK6S00647YG
designator J?
100 Contacts Header PANASONIC AXK6S Serie
pins: 1 (io), 2 (io), 3 (io), 4 (io), 5 (io), 6 (io), 7 (io), 8 (io), 9 (io), 10 (io), 11 (io), 12 (io), 13 (io), 14 (io), 15 (io), 16 (io), 17 (io), 18 (io), 19 (io), 20 (io), 21 (io), 22 (io), 23 (io), 24 (io), 25 (io), 26 (io), 27 (io), 28 (io), 29 (io), 30 (io), 31 (io), 32 (io), 33 (io), 34 (io), 35 (io), 36 (io), 37 (io), 38 (io), 39 (io), 40 (io), 41 (io), 42 (io), 43 (io), 44 (io), 45 (io), 46 (io), 47 (io), 48 (io), 49 (io), 50 (io), 51 (io), 52 (io), 53 (io), 54 (io), 55 (io), 56 (io), 57 (io), 58 (io), 59 (io), 60 (io), 61 (io), 62 (io), 63 (io), 64 (io), 65 (io), 66 (io), 67 (io), 68 (io), 69 (io), 70 (io), 71 (io), 72 (io), 73 (io), 74 (io), 75 (io), 76 (io), 77 (io), 78 (io), 79 (io), 80 (io), 81 (io), 82 (io), 83 (io), 84 (io), 85 (io), 86 (io), 87 (io), 88 (io), 89 (io), 90 (io), 91 (io), 92 (io), 93 (io), 94 (io), 95 (io), 96 (io), 97 (io), 98 (io), 99 (io), 100 (io)

## PANASONIC_AXK6SA3677YG
designator J?
130 Contacts Header PANASONIC AXK6S Serie
pins: 1 (io), 2 (io), 3 (io), 4 (io), 5 (io), 6 (io), 7 (io), 8 (io), 9 (io), 10 (io), 11 (io), 12 (io), 13 (io), 14 (io), 15 (io), 16 (io), 17 (io), 18 (io), 19 (io), 20 (io), 21 (io), 22 (io), 23 (io), 24 (io), 25 (io), 26 (io), 27 (io), 28 (io), 29 (io), 30 (io), 31 (io), 32 (io), 33 (io), 34 (io), 35 (io), 36 (io), 37 (io), 38 (io), 39 (io), 40 (io), 41 (io), 42 (io), 43 (io), 44 (io), 45 (io), 46 (io), 47 (io), 48 (io), 49 (io), 50 (io), 51 (io), 52 (io), 53 (io), 54 (io), 55 (io), 56 (io), 57 (io), 58 (io), 59 (io), 60 (io), 61 (io), 62 (io), 63 (io), 64 (io), 65 (io), 66 (io), 67 (io), 68 (io), 69 (io), 70 (io), 71 (io), 72 (io), 73 (io), 74 (io), 75 (io), 76 (io), 77 (io), 78 (io), 79 (io), 80 (io), 81 (io), 82 (io), 83 (io), 84 (io), 85 (io), 86 (io), 87 (io), 88 (io), 89 (io), 90 (io), 91 (io), 92 (io), 93 (io), 94 (io), 95 (io), 96 (io), 97 (io), 98 (io), 99 (io), 100 (io), 101 (io), 102 (io), 103 (io), 104 (io), 105 (io), 106 (io), 107 (io), 108 (io), 109 (io), 110 (io), 111 (io), 112 (io), 113 (io), 114 (io), 115 (io), 116 (io), 117 (io), 118 (io), 119 (io), 120 (io), 121 (io), 122 (io), 123 (io), 124 (io), 125 (io), 126 (io), 127 (io), 128 (io), 129 (io), 130 (io)

## PCB Edge Connector 26 (2x13)
designator J?
PCB Edge Connector 26 (2x13)
pins: 1 (io), 2 (io), 3 (io), 4 (io), 5 (io), 6 (io), 7 (io), 8 (io), 9 (io), 10 (io), 11 (io), 12 (io), 13 (io), 14 (io), 15 (io), 16 (io), 17 (io), 18 (io), 19 (io), 20 (io), 21 (io), 22 (io), 23 (io), 24 (io), 25 (io), 26 (io)
1 alternate drawing of the same symbol

## PCB Edge Connector 38 (2x19) - QSFP+
designator J?
38 Position QSFP+ PCB Edge Connector 38 (2x19)
pins: 1 GND (power), 2 TX2n (in), 3 TX2p (in), 4 GND (power), 5 TX4n (in), 6 TX4p (in), 7 GND (power), 8 ModselL (in), 9 ResetL (in), 10 VccRx (power), 11 SCL (in), 12 SDA (in), 13 GND (in), 14 RX3p (in), 15 RX3n (in), 16 GND (in), 17 RX1p (in), 18 RX1n (in), 19 GND (in), 20 GND (in), 21 RX2n (in), 22 RX2p (in), 23 GND (in), 24 RX4n (in), 25 RX4p (in), 26 GND (in), 27 ModPrsL (in), 28 IntL (in), 29 VccTx (in), 30 Vcc1 (in), 31 LPMode (in), 32 GND (in), 33 TX3p (in), 34 TX3n (in), 35 GND (in), 36 TX1p (in), 37 TX1n (in), 38 GND (in)
text: BOT; TOP

## PCI Express x1 Male
designator J?
36 contacts Board Eddge PCI Express x1 Connector
pins: a1 PRSNT1# (io), a2 +12V (power), a3 +12V (power), a4 GND (power), a5 TCK (io), a6 TDI (io), a7 TDO (io), a8 TMS (io), a9 +3.3V (power), a10 +3.3V (power), a11 PERST# (io), a12 GND (power), a13 REFCLK+ (io), a14 REFCLK- (io), a15 GND (power), a16 PERp0 (io), a17 PERn0 (io), a18 GND (power), b1 +12V (power), b2 +12V (power), b3 +12V (io), b4 GND (power), b5 SMCLK (io), b6 SMDAT (io), b7 GND (power), b8 +3.3V (power), b9 TRST# (io), b10 3.3Vaux (power), b11 WAKE# (io), b12 RSVD (io), b13 GND (power), b14 PETp0 (io), b15 PETn0 (io), b16 GND (power), b17 PRSNT#2 (io), b18 GND (power)

## PCI Express x4 Female
designator J?
64 contacts Board Eddge PCI Express x4 Socket
pins: a1 PRSNT1# (io), a2 +12V (power), a3 +12V (power), a4 GND (power), a5 TCK (io), a6 TDI (io), a7 TDO (io), a8 TMS (io), a9 +3.3V (power), a10 +3.3V (power), a11 PERST# (io), a12 GND (power), a13 REFCLK+ (io), a14 REFCLK- (io), a15 GND (power), a16 PERp0 (io), a17 PERn0 (io), a18 GND (power), a19 RSVD (io), a20 GND (power), a21 PERp1 (io), a22 PERn1 (io), a23 GND (power), a24 GND (power), a25 PERp2 (io), a26 PERn2 (io), a27 GND (power), a28 GND (power), a29 PERp3 (io), a30 PERn3 (io), a31 GND (power), a32 RSVD (io), b1 +12V (power), b2 +12V (power), b3 +12V (io), b4 GND (power), b5 SMCLK (io), b6 SMDAT (io), b7 GND (power), b8 +3.3V (power), b9 TRST# (io), b10 3.3Vaux (power), b11 WAKE# (io), b12 RSVD (io), b13 GND (power), b14 PETp0 (io), b15 PETn0 (io), b16 GND (power), b17 PRSNT2# (io), b18 GND (power), b19 PETp1 (out), b20 PETn1 (io), b21 GND (power), b22 GND (power), b23 PETp2 (io), b24 PETn2 (io), b25 GND (power), b26 GND (power), b27 PETp3 (io), b28 PETn3 (io), b29 GND (power), b30 RSVD (io), b31 PRSNT2# (io), b32 GND (power)

## PCI Express x4 Male
designator J?
64 contacts Board Eddge PCI Express x4 Connector
pins: a1 PRSNT1# (io), a2 +12V (power), a3 +12V (power), a4 GND (power), a5 TCK (io), a6 TDI (io), a7 TDO (io), a8 TMS (io), a9 +3.3V (power), a10 +3.3V (power), a11 PERST# (io), a12 GND (power), a13 REFCLK+ (io), a14 REFCLK- (io), a15 GND (power), a16 PERp0 (io), a17 PERn0 (io), a18 GND (power), a19 RSVD (io), a20 GND (power), a21 PERp1 (io), a22 PERn1 (io), a23 GND (power), a24 GND (power), a25 PERp2 (io), a26 PERn2 (io), a27 GND (power), a28 GND (power), a29 PERp3 (io), a30 PERn3 (io), a31 GND (power), a32 RSVD (io), b1 +12V (power), b2 +12V (power), b3 +12V (io), b4 GND (power), b5 SMCLK (io), b6 SMDAT (io), b7 GND (power), b8 +3.3V (power), b9 TRST# (io), b10 3.3Vaux (power), b11 WAKE# (io), b12 RSVD (io), b13 GND (power), b14 PETp0 (io), b15 PETn0 (io), b16 GND (power), b17 PRSNT2# (io), b18 GND (power), b19 PETp1 (out), b20 PETn1 (io), b21 GND (power), b22 GND (power), b23 PETp2 (io), b24 PETn2 (io), b25 GND (power), b26 GND (power), b27 PETp3 (io), b28 PETn3 (io), b29 GND (power), b30 RSVD (io), b31 PRSNT2# (io), b32 GND (power)

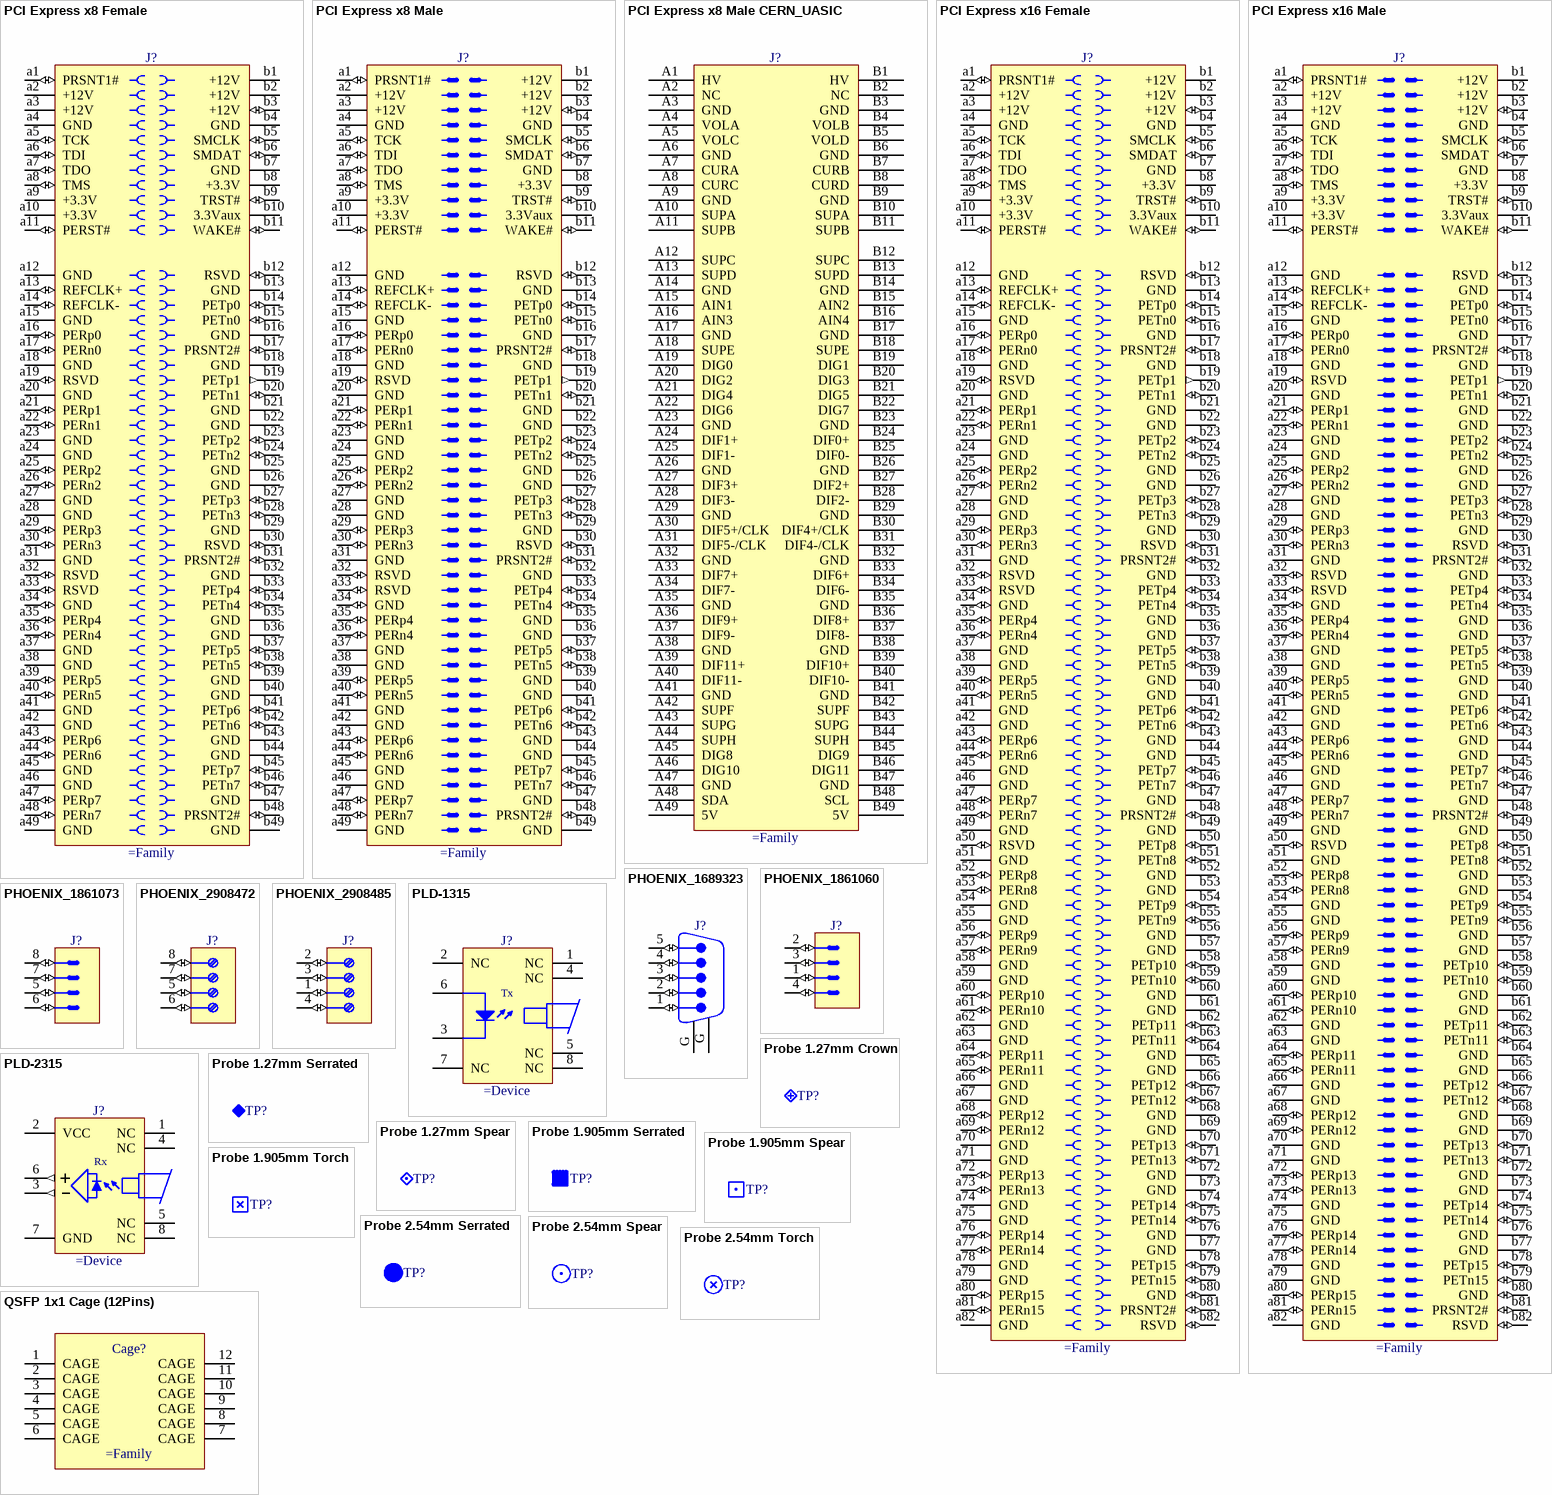
[diagram p64: symbols PCI Express x8 Female to QSFP 1x1 Cage (12Pins)]

## PCI Express x8 Female
designator J?
98 contacts Board Eddge PCI Express x8 Socket
pins: a1 PRSNT1# (io), a2 +12V (power), a3 +12V (power), a4 GND (power), a5 TCK (io), a6 TDI (io), a7 TDO (io), a8 TMS (io), a9 +3.3V (power), a10 +3.3V (power), a11 PERST# (io), a12 GND (power), a13 REFCLK+ (io), a14 REFCLK- (io), a15 GND (power), a16 PERp0 (io), a17 PERn0 (io), a18 GND (power), a19 RSVD (io), a20 GND (power), a21 PERp1 (io), a22 PERn1 (io), a23 GND (power), a24 GND (power), a25 PERp2 (io), a26 PERn2 (io), a27 GND (power), a28 GND (power), a29 PERp3 (io), a30 PERn3 (io), a31 GND (power), a32 RSVD (io), a33 RSVD (io), a34 GND (io), a35 PERp4 (io), a36 PERn4 (io), a37 GND (power), a38 GND (power), a39 PERp5 (io), a40 PERn5 (io), a41 GND (power), a42 GND (power), a43 PERp6 (io), a44 PERn6 (io), a45 GND (power), a46 GND (power), a47 PERp7 (io), a48 PERn7 (io), a49 GND (power), b1 +12V (power), b2 +12V (power), b3 +12V (io), b4 GND (power), b5 SMCLK (io), b6 SMDAT (io), b7 GND (power), b8 +3.3V (power), b9 TRST# (io), b10 3.3Vaux (power), b11 WAKE# (io), b12 RSVD (io), b13 GND (power), b14 PETp0 (io), b15 PETn0 (io), b16 GND (power), b17 PRSNT2# (io), b18 GND (power), b19 PETp1 (out), b20 PETn1 (io), b21 GND (power), b22 GND (power), b23 PETp2 (io), b24 PETn2 (io), b25 GND (power), b26 GND (power), b27 PETp3 (io), b28 PETn3 (io), b29 GND (power), b30 RSVD (io), b31 PRSNT2# (io), b32 GND (power), b33 PETp4 (io), b34 PETn4 (io), b35 GND (power), b36 GND (power), b37 PETp5 (io), b38 PETn5 (io), b39 GND (power), b40 GND (power), b41 PETp6 (io), b42 PETn6 (io), b43 GND (power), b44 GND (power), b45 PETp7 (io), b46 PETn7 (io), b47 GND (power), b48 PRSNT2# (io), b49 GND (power)

## PCI Express x8 Male
designator J?
98 contacts Board Eddge PCI Express x8 Connector
pins: a1 PRSNT1# (io), a2 +12V (power), a3 +12V (power), a4 GND (power), a5 TCK (io), a6 TDI (io), a7 TDO (io), a8 TMS (io), a9 +3.3V (power), a10 +3.3V (power), a11 PERST# (io), a12 GND (power), a13 REFCLK+ (io), a14 REFCLK- (io), a15 GND (power), a16 PERp0 (io), a17 PERn0 (io), a18 GND (power), a19 RSVD (io), a20 GND (power), a21 PERp1 (io), a22 PERn1 (io), a23 GND (power), a24 GND (power), a25 PERp2 (io), a26 PERn2 (io), a27 GND (power), a28 GND (power), a29 PERp3 (io), a30 PERn3 (io), a31 GND (power), a32 RSVD (io), a33 RSVD (io), a34 GND (io), a35 PERp4 (io), a36 PERn4 (io), a37 GND (power), a38 GND (power), a39 PERp5 (io), a40 PERn5 (io), a41 GND (power), a42 GND (power), a43 PERp6 (io), a44 PERn6 (io), a45 GND (power), a46 GND (power), a47 PERp7 (io), a48 PERn7 (io), a49 GND (power), b1 +12V (power), b2 +12V (power), b3 +12V (io), b4 GND (power), b5 SMCLK (io), b6 SMDAT (io), b7 GND (power), b8 +3.3V (power), b9 TRST# (io), b10 3.3Vaux (power), b11 WAKE# (io), b12 RSVD (io), b13 GND (power), b14 PETp0 (io), b15 PETn0 (io), b16 GND (power), b17 PRSNT2# (io), b18 GND (power), b19 PETp1 (out), b20 PETn1 (io), b21 GND (power), b22 GND (power), b23 PETp2 (io), b24 PETn2 (io), b25 GND (power), b26 GND (power), b27 PETp3 (io), b28 PETn3 (io), b29 GND (power), b30 RSVD (io), b31 PRSNT2# (io), b32 GND (power), b33 PETp4 (io), b34 PETn4 (io), b35 GND (power), b36 GND (power), b37 PETp5 (io), b38 PETn5 (io), b39 GND (power), b40 GND (power), b41 PETp6 (io), b42 PETn6 (io), b43 GND (power), b44 GND (power), b45 PETp7 (io), b46 PETn7 (io), b47 GND (power), b48 PRSNT2# (io), b49 GND (power)

## PCI Express x8 Male CERN_UASIC
designator J?
98 contacts Board Eddge PCI Express x8 Connector Custom Cern uASIC
pins: A1 HV, A2 NC, A3 GND, A4 VOLA, A5 VOLC, A6 GND, A7 CURA, A8 CURC, A9 GND, A10 SUPA, A11 SUPB, A12 SUPC, A13 SUPD, A14 GND, A15 AIN1, A16 AIN3, A17 GND, A18 SUPE, A19 DIG0, A20 DIG2, A21 DIG4, A22 DIG6, A23 GND, A24 DIF1+, A25 DIF1-, A26 GND, A27 DIF3+, A28 DIF3-, A29 GND, A30 DIF5+/CLK, A31 DIF5-/CLK, A32 GND, A33 DIF7+, A34 DIF7-, A35 GND, A36 DIF9+, A37 DIF9-, A38 GND, A39 DIF11+, A40 DIF11-, A41 GND, A42 SUPF, A43 SUPG, A44 SUPH, A45 DIG8, A46 DIG10, A47 GND, A48 SDA, A49 5V, B1 HV, B2 NC, B3 GND, B4 VOLB, B5 VOLD, B6 GND, B7 CURB, B8 CURD, B9 GND, B10 SUPA, B11 SUPB, B12 SUPC, B13 SUPD, B14 GND, B15 AIN2, B16 AIN4, B17 GND, B18 SUPE, B19 DIG1, B20 DIG3, B21 DIG5, B22 DIG7, B23 GND, B24 DIF0+, B25 DIF0-, B26 GND, B27 DIF2+, B28 DIF2-, B29 GND, B30 DIF4+/CLK, B31 DIF4-/CLK, B32 GND, B33 DIF6+, B34 DIF6-, B35 GND, B36 DIF8+, B37 DIF8-, B38 GND, B39 DIF10+, B40 DIF10-, B41 GND, B42 SUPF, B43 SUPG, B44 SUPH, B45 DIG9, B46 DIG11, B47 GND, B48 SCL, B49 5V

## PCI Express x16 Female
designator J?
164 contacts Board Eddge PCI Express x16 Socket
pins: a1 PRSNT1# (io), a2 +12V (power), a3 +12V (power), a4 GND (power), a5 TCK (io), a6 TDI (io), a7 TDO (io), a8 TMS (io), a9 +3.3V (power), a10 +3.3V (power), a11 PERST# (io), a12 GND (power), a13 REFCLK+ (io), a14 REFCLK- (io), a15 GND (power), a16 PERp0 (io), a17 PERn0 (io), a18 GND (power), a19 RSVD (io), a20 GND (power), a21 PERp1 (io), a22 PERn1 (io), a23 GND (power), a24 GND (power), a25 PERp2 (io), a26 PERn2 (io), a27 GND (power), a28 GND (power), a29 PERp3 (io), a30 PERn3 (io), a31 GND (power), a32 RSVD (io), a33 RSVD (io), a34 GND (io), a35 PERp4 (io), a36 PERn4 (io), a37 GND (power), a38 GND (power), a39 PERp5 (io), a40 PERn5 (io), a41 GND (power), a42 GND (power), a43 PERp6 (io), a44 PERn6 (io), a45 GND (power), a46 GND (power), a47 PERp7 (io), a48 PERn7 (io), a49 GND (power), a50 RSVD (io), a51 GND (power), a52 PERp8 (io), a53 PERn8 (io), a54 GND (power), a55 GND (power), a56 PERp9 (io), a57 PERn9 (io), a58 GND (power), a59 GND (power), a60 PERp10 (io), a61 PERn10 (io), a62 GND (power), a63 GND (power), a64 PERp11 (io), a65 PERn11 (io), a66 GND (power), a67 GND (power), a68 PERp12 (io), a69 PERn12 (io), a70 GND (power), a71 GND (power), a72 PERp13 (io), a73 PERn13 (io), a74 GND (power), a75 GND (power), a76 PERp14 (io), a77 PERn14 (io), a78 GND (power), a79 GND (power), a80 PERp15 (io), a81 PERn15 (io), a82 GND (power), b1 +12V (power), b2 +12V (power), b3 +12V (io), b4 GND (power), b5 SMCLK (io), b6 SMDAT (io), b7 GND (power), b8 +3.3V (power), b9 TRST# (io), b10 3.3Vaux (power), b11 WAKE# (io), b12 RSVD (io), b13 GND (power), b14 PETp0 (io), b15 PETn0 (io), b16 GND (power), b17 PRSNT2# (io), b18 GND (power), b19 PETp1 (out), b20 PETn1 (io), b21 GND (power), b22 GND (power), b23 PETp2 (io), b24 PETn2 (io), b25 GND (power), b26 GND (power), b27 PETp3 (io), b28 PETn3 (io), b29 GND (power), b30 RSVD (io), b31 PRSNT2# (io), b32 GND (power), b33 PETp4 (io), b34 PETn4 (io), b35 GND (power), b36 GND (power), b37 PETp5 (io), b38 PETn5 (io), b39 GND (power), b40 GND (power), b41 PETp6 (io), b42 PETn6 (io), b43 GND (power), b44 GND (power), b45 PETp7 (io), b46 PETn7 (io), b47 GND (power), b48 PRSNT2# (io), b49 GND (power), b50 PETp8 (io), b51 PETn8 (io), b52 GND (power), b53 GND (power), b54 PETp9 (io), b55 PETn9 (io), b56 GND (power), b57 GND (power), b58 PETp10 (io), b59 PETn10 (io), b60 GND (power), b61 GND (power), b62 PETp11 (io), b63 PETn11 (io), b64 GND (power), b65 GND (power), b66 PETp12 (io), b67 PETn12 (io), b68 GND (power), b69 GND (power), b70 PETp13 (io), b71 PETn13 (io), b72 GND (power), b73 GND (power), b74 PETp14 (io), b75 PETn14 (io), b76 GND (power), b77 GND (power), b78 PETp15 (io), b79 PETn15 (io), b80 GND (io), b81 PRSNT2# (io), b82 RSVD (io)

## PCI Express x16 Male
designator J?
164 contacts Board Eddge PCI Express x16 Connector
pins: a1 PRSNT1# (io), a2 +12V (power), a3 +12V (power), a4 GND (power), a5 TCK (io), a6 TDI (io), a7 TDO (io), a8 TMS (io), a9 +3.3V (power), a10 +3.3V (power), a11 PERST# (io), a12 GND (power), a13 REFCLK+ (io), a14 REFCLK- (io), a15 GND (power), a16 PERp0 (io), a17 PERn0 (io), a18 GND (power), a19 RSVD (io), a20 GND (power), a21 PERp1 (io), a22 PERn1 (io), a23 GND (power), a24 GND (power), a25 PERp2 (io), a26 PERn2 (io), a27 GND (power), a28 GND (power), a29 PERp3 (io), a30 PERn3 (io), a31 GND (power), a32 RSVD (io), a33 RSVD (io), a34 GND (io), a35 PERp4 (io), a36 PERn4 (io), a37 GND (power), a38 GND (power), a39 PERp5 (io), a40 PERn5 (io), a41 GND (power), a42 GND (power), a43 PERp6 (io), a44 PERn6 (io), a45 GND (power), a46 GND (power), a47 PERp7 (io), a48 PERn7 (io), a49 GND (power), a50 RSVD (io), a51 GND (power), a52 PERp8 (io), a53 PERn8 (io), a54 GND (power), a55 GND (power), a56 PERp9 (io), a57 PERn9 (io), a58 GND (power), a59 GND (power), a60 PERp10 (io), a61 PERn10 (io), a62 GND (power), a63 GND (power), a64 PERp11 (io), a65 PERn11 (io), a66 GND (power), a67 GND (power), a68 PERp12 (io), a69 PERn12 (io), a70 GND (power), a71 GND (power), a72 PERp13 (io), a73 PERn13 (io), a74 GND (power), a75 GND (power), a76 PERp14 (io), a77 PERn14 (io), a78 GND (power), a79 GND (power), a80 PERp15 (io), a81 PERn15 (io), a82 GND (power), b1 +12V (power), b2 +12V (power), b3 +12V (io), b4 GND (power), b5 SMCLK (io), b6 SMDAT (io), b7 GND (power), b8 +3.3V (power), b9 TRST# (io), b10 3.3Vaux (power), b11 WAKE# (io), b12 RSVD (io), b13 GND (power), b14 PETp0 (io), b15 PETn0 (io), b16 GND (power), b17 PRSNT2# (io), b18 GND (power), b19 PETp1 (out), b20 PETn1 (io), b21 GND (power), b22 GND (power), b23 PETp2 (io), b24 PETn2 (io), b25 GND (power), b26 GND (power), b27 PETp3 (io), b28 PETn3 (io), b29 GND (power), b30 RSVD (io), b31 PRSNT2# (io), b32 GND (power), b33 PETp4 (io), b34 PETn4 (io), b35 GND (power), b36 GND (power), b37 PETp5 (io), b38 PETn5 (io), b39 GND (power), b40 GND (power), b41 PETp6 (io), b42 PETn6 (io), b43 GND (power), b44 GND (power), b45 PETp7 (io), b46 PETn7 (io), b47 GND (power), b48 PRSNT2# (io), b49 GND (power), b50 PETp8 (io), b51 PETn8 (io), b52 GND (power), b53 GND (power), b54 PETp9 (io), b55 PETn9 (io), b56 GND (power), b57 GND (power), b58 PETp10 (io), b59 PETn10 (io), b60 GND (power), b61 GND (power), b62 PETp11 (io), b63 PETn11 (io), b64 GND (power), b65 GND (power), b66 PETp12 (io), b67 PETn12 (io), b68 GND (power), b69 GND (power), b70 PETp13 (io), b71 PETn13 (io), b72 GND (power), b73 GND (power), b74 PETp14 (io), b75 PETn14 (io), b76 GND (power), b77 GND (power), b78 PETp15 (io), b79 PETn15 (io), b80 GND (io), b81 PRSNT2# (io), b82 RSVD (io)

## PHOENIX_1689323
designator J?
5-Positions POWER-SUBCON Shielded Header, With Capacitive  Ground Connection
pins: 1 (io), 2 (io), 3 (io), 4 (io), 5 (io), G, G

## PHOENIX_1861060
designator J?
COMBICON PCB Male Header, 4 Positions, Left
pins: 1 (io), 2 (io), 3 (io), 4 (io)
1 alternate drawing of the same symbol

## PHOENIX_1861073
designator J?
COMBICON PCB Male Header, 4 Positions, Right
pins: 5 (io), 6 (io), 7 (io), 8 (io)

## PHOENIX_2908472
designator J?
Terminal Block, 4 Positions, 5 to 8 With Screw Connection
pins: 5 (io), 6 (io), 7 (io), 8 (io)

## PHOENIX_2908485
designator J?
Terminal Block, 4 Positions, 1 to 4 With Screw Connection
pins: 1 (io), 2 (io), 3 (io), 4 (io)

## PLD-1315
designator J?
1300nm Singlemode Fiber Optic Transmitter
pins: 1 NC, 2 NC, 3 C (power), 4 NC, 5 NC, 6 A (power), 7 NC, 8 NC
text: Tx

## PLD-2315
designator J?
150Mbps, 1310 nm Fiber Optic Receiver
pins: 1 NC, 2 VCC (power), 3 SIG- (out), 4 NC, 5 NC, 6 SIG+ (out), 7 GND (power), 8 NC
text: Rx

## Probe 1.27mm Crown
designator TP?
Probe 1.27mm Crown

## Probe 1.27mm Serrated
designator TP?
Probe 1.27mm Serrated

## Probe 1.27mm Spear
designator TP?
Probe 1.27mm Spear

## Probe 1.905mm Serrated
designator TP?
Probe 1.905mm Serrated

## Probe 1.905mm Spear
designator TP?
Probe 1.905mm Spear

## Probe 1.905mm Torch
designator TP?
Probe 1.905mm Torch

## Probe 2.54mm Serrated
designator TP?
Probe 2.54mm Serrated

## Probe 2.54mm Spear
designator TP?
Probe 2.54mm Spear

## Probe 2.54mm Torch
designator TP?
Probe 2.54mm Torch

## QSFP 1x1 Cage (12Pins)
designator Cage?
QSFP 1x1 Cage (12Pins)
pins: 1 CAGE (power), 2 CAGE (power), 3 CAGE (power), 4 CAGE (power), 5 CAGE (power), 6 CAGE (power), 7 CAGE (power), 8 CAGE (power), 9 CAGE (power), 10 CAGE (power), 11 CAGE (power), 12 CAGE (power)

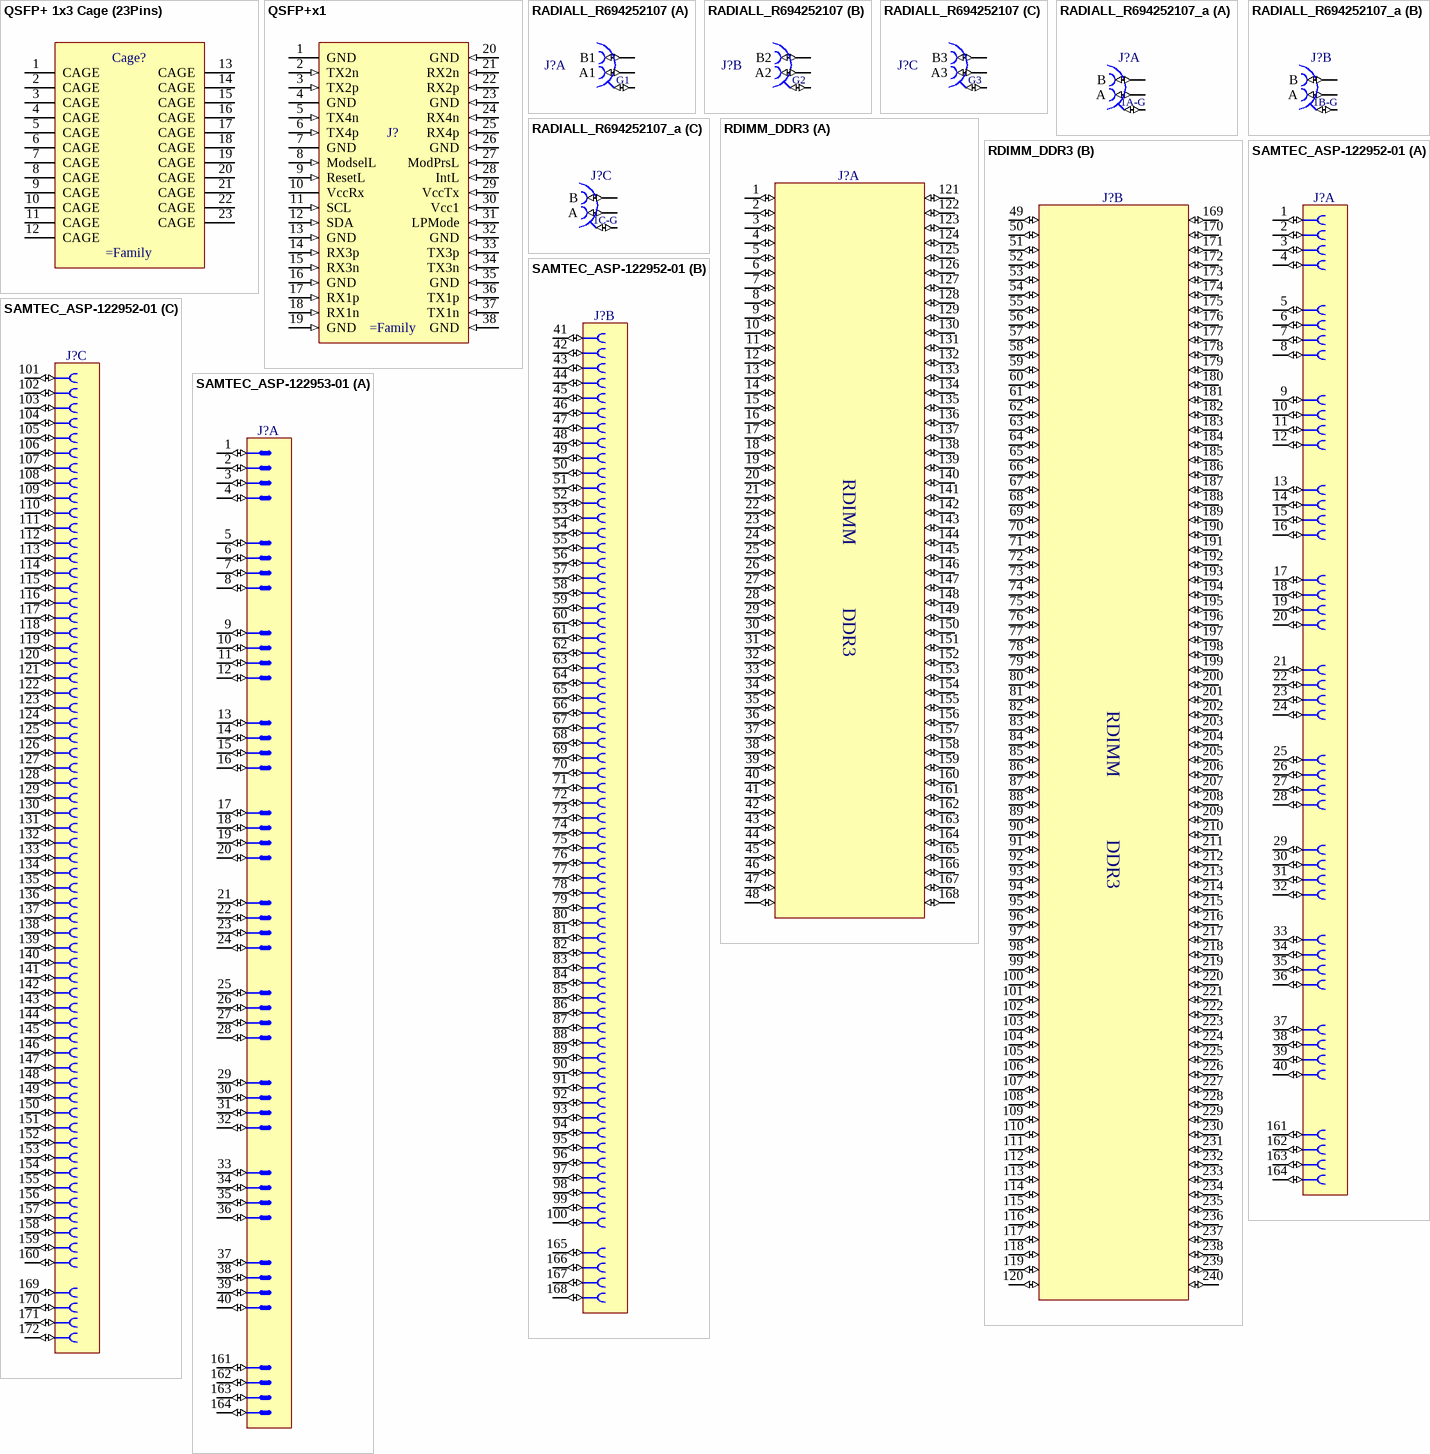
[diagram p65: symbols QSFP+ 1x3 Cage (23Pins) to SAMTEC_ASP-122953-01]

## QSFP+ 1x3 Cage (23Pins)
designator Cage?
QSFP+ 1x3 Cage (23Pins)
pins: 1 CAGE (power), 2 CAGE (power), 3 CAGE (power), 4 CAGE (power), 5 CAGE (power), 6 CAGE (power), 7 CAGE (power), 8 CAGE (power), 9 CAGE (power), 10 CAGE (power), 11 CAGE (power), 12 CAGE (power), 13 CAGE (power), 14 CAGE (power), 15 CAGE (power), 16 CAGE (power), 17 CAGE (power), 18 CAGE (power), 19 CAGE (power), 20 CAGE (power), 21 CAGE (power), 22 CAGE (power), 23 CAGE (power)

## QSFP+x1
designator J?
38Position QSFP Connector  (Quad Small Form-factor Pluggable)
pins: 1 GND (power), 2 TX2n (in), 3 TX2p (in), 4 GND (power), 5 TX4n (in), 6 TX4p (in), 7 GND (power), 8 ModselL (in), 9 ResetL (in), 10 VccRx (power), 11 SCL (in), 12 SDA (in), 13 GND (in), 14 RX3p (in), 15 RX3n (in), 16 GND (in), 17 RX1p (in), 18 RX1n (in), 19 GND (in), 20 GND (in), 21 RX2n (in), 22 RX2p (in), 23 GND (in), 24 RX4n (in), 25 RX4p (in), 26 GND (in), 27 ModPrsL (in), 28 IntL (in), 29 VccTx (in), 30 Vcc1 (in), 31 LPMode (in), 32 GND (in), 33 TX3p (in), 34 TX3n (in), 35 GND (in), 36 TX1p (in), 37 TX1n (in), 38 GND (in)

## RADIALL_R694252107
designator J?
COAXIPAK 2 Series, 6 Ways 50 ohm RF Coaxial Right Angle Jack Module
part A pins: A1 (io), B1 (io), G1 (io)
part B pins: A2 (io), B2 (io), G2 (io)
part C pins: A3 (io), B3 (io), G3 (io)

## RADIALL_R694252107_a
designator J?
COAXIPAK 2 Series, 6 Ways 50 ohm RF Coaxial Right Angle Jack Module
part A pins: 1A-A A (io), 1A-B B (io), 1A-G (io)
part B pins: 1B-A A (io), 1B-B B (io), 1B-G (io)
part C pins: 1C-A A (io), 1C-B B (io), 1C-G (io)

## RDIMM_DDR3
designator J?
240 Contacts RDIMM DDR3 (Jedec MO-269)
part A pins: 1 VREFDQ (io), 2 VSS (io), 3 DQ0 (io), 4 DQ1 (io), 5 VSS (io), 6 DQS0# (io), 7 DQS0 (io), 8 VSS (io), 9 DQ2 (io), 10 DQ3 (io), 11 VSS (io), 12 DQ8 (io), 13 DQ9 (io), 14 VSS (io), 15 DQS1# (io), 16 DQS1 (io), 17 VSS (io), 18 DQ10 (io), 19 DQ11 (io), 20 VSS (io), 21 DQ16 (io), 22 DQ17 (io), 23 VSS (io), 24 DQS2# (io), 25 DQS2 (io), 26 VSS (io), 27 DQ18 (io), 28 DQ19 (io), 29 VSS (io), 30 DQ24 (io), 31 DQ25 (io), 32 VSS (io), 33 DQS3# (io), 34 DQS3 (io), 35 VSS (io), 36 DQ26 (io), 37 DQ27 (io), 38 VSS (io), 39 CB0 (io), 40 CB1 (io), 41 VSS (io), 42 DQS8# (io), 43 DQS8 (io), 44 VSS (io), 45 CB2 (io), 46 CB3 (io), 47 VSS (io), 48 VTT (io), 121 VSS (io), 122 DQ4 (io), 123 DQ5 (io), 124 VSS (io), 125 DM0/ TDQS9 (io), 126 NU/ TDQS9# (io), 127 VSS (io), 128 DQ6 (io), 129 DQ7 (io), 130 VSS (io), 131 DQ12 (io), 132 DQ13 (io), 133 VSS (io), 134 DM0/ TDQS9 (io), 135 NU/ TDQS9# (io), 136 VSS (io), 137 DQ14 (io), 138 DQ15 (io), 139 VSS (io), 140 DQ20 (io), 141 DQ21 (io), 142 VSS (io), 143 DM2/ TDQS11 (io), 144 NU/ TDQS11# (io), 145 VSS (io), 146 DQ22 (io), 147 DQ23# (io), 148 VSS (io), 149 DQ28 (io), 150 DQ29 (io), 151 VSS (io), 152 DM3/ TDQS12 (io), 153 NU/ TDQS12# (io), 154 VSS (io), 155 DQ30 (io), 156 DQ31 (io), 157 VSS (io), 158 CB4 (io), 159 CB5 (io), 160 VSS (io), 161 DM8/ TDQS17 (io), 162 NU/ TDQS17# (io), 163 VSS (io), 164 CB6 (io), 165 CB7 (io), 166 VSS (io), 167 NC (io), 168 RESET# (io)
part B pins: 49 VTT (io), 50 CKE0 (io), 51 VDD (io), 52 BA2 (io), 53 ERR_OUT# (io), 54 VDD (io), 55 A11 (io), 56 A7 (io), 57 VDD (io), 58 A5 (io), 59 A4 (io), 60 VDD (io), 61 A2 (io), 62 VDD (io), 63 NC (io), 64 NC (io), 65 VDD (io), 66 VDD (io), 67 VREFCA (io), 68 PAR_IN (io), 69 VDD (io), 70 A10 (io), 71 BA0 (io), 72 VDD (io), 73 WE# (io), 74 CAS# (io), 75 VDD (io), 76 S1# (io), 77 ODT1 (io), 78 VDD (io), 79 NC (io), 80 VSS (io), 81 DQ32 (io), 82 DQ33 (io), 83 VSS (io), 84 DQS4# (io), 85 DQS4 (io), 86 VSS (io), 87 DQ34 (io), 88 DQ35 (io), 89 VSS (io), 90 DQ40 (io), 91 DQ41 (io), 92 VSS (io), 93 DQS5# (io), 94 DQS5 (io), 95 VSS (io), 96 DQ42 (io), 97 DQ43 (io), 98 VSS (io), 99 DQ48 (io), 100 DQ49 (io), 101 VSS (io), 102 DQS6# (io), 103 DQS6 (io), 104 VSS (io), 105 DQ50 (io), 106 DQ51 (io), 107 VSS (io), 108 DQ56 (io), 109 DQ57 (io), 110 VSS (io), 111 DQS7# (io), 112 DQS7 (io), 113 VSS (io), 114 DQ58 (io), 115 DQ59 (io), 116 VSS (io), 117 SA0 (io), 118 SCL (io), 119 SA2 (io), 120 VTT (io), 169 NC (io), 170 VDD (io), 171 A15 (io), 172 A14 (io), 173 VDD (io), 174 A12 (io), 175 A9 (io), 176 VDD (io), 177 A8 (io), 178 A6 (io), 179 VDD (io), 180 A3 (io), 181 A1 (io), 182 VDD (io), 183 VDD (io), 184 CK0 (io), 185 CK0# (io), 186 VDD (io), 187 EVENT# (io), 188 A0 (io), 189 VDD (io), 190 BA1 (io), 191 VDD (io), 192 RAS# (io), 193 S0# (io), 194 VDD (io), 195 ODT0 (io), 196 A13 (io), 197 VDD (io), 198 NC (io), 199 VSS (io), 200 DQ36 (io), 201 DQ37 (io), 202 VSS (io), 203 DM4/ TDQS13 (io), 204 NU/ TDQS13# (io), 205 VSS (io), 206 DQ38 (io), 207 DQ39 (io), 208 VSS (io), 209 DQ44 (io), 210 DQ45 (io), 211 VSS (io), 212 DM5/ TDQS14 (io), 213 NU/ TDQS14# (io), 214 VSS (io), 215 DQ46 (io), 216 DQ47 (io), 217 VSS (io), 218 DQ52 (io), 219 DQ53 (io), 220 VSS (io), 221 DM6/ TDQS15 (io), 222 NU/ TDQS15# (io), 223 VSS (io), 224 DQ54 (io), 225 DQ55 (io), 226 VSS (io), 227 DQ60 (io), 228 DQ61 (io), 229 VSS (io), 230 DM7/ TDQS16 (io), 231 NU/ TDQS16# (io), 232 VSS (io), 233 DQ62 (io), 234 DQ63 (io), 235 VSS (io), 236 VDDSPD (io), 237 SA1 (io), 238 SDA (io), 239 VSS (io), 240 VTT (io)
1 alternate drawing of the same symbol
part A text: RDIMM; DDR3
part B text: RDIMM; DDR3

## SAMTEC_ASP-122952-01
designator J?
Connector 160 Female 1x40 + 2x60 + 3x4 GND
part A pins: 1 (io), 2 (io), 3 (io), 4 (io), 5 (io), 6 (io), 7 (io), 8 (io), 9 (io), 10 (io), 11 (io), 12 (io), 13 (io), 14 (io), 15 (io), 16 (io), 17 (io), 18 (io), 19 (io), 20 (io), 21 (io), 22 (io), 23 (io), 24 (io), 25 (io), 26 (io), 27 (io), 28 (io), 29 (io), 30 (io), 31 (io), 32 (io), 33 (io), 34 (io), 35 (io), 36 (io), 37 (io), 38 (io), 39 (io), 40 (io), 161 (io), 162 (io), 163 (io), 164 (io)
part B pins: 41 (io), 42 (io), 43 (io), 44 (io), 45 (io), 46 (io), 47 (io), 48 (io), 49 (io), 50 (io), 51 (io), 52 (io), 53 (io), 54 (io), 55 (io), 56 (io), 57 (io), 58 (io), 59 (io), 60 (io), 61 (io), 62 (io), 63 (io), 64 (io), 65 (io), 66 (io), 67 (io), 68 (io), 69 (io), 70 (io), 71 (io), 72 (io), 73 (io), 74 (io), 75 (io), 76 (io), 77 (io), 78 (io), 79 (io), 80 (io), 81 (io), 82 (io), 83 (io), 84 (io), 85 (io), 86 (io), 87 (io), 88 (io), 89 (io), 90 (io), 91 (io), 92 (io), 93 (io), 94 (io), 95 (io), 96 (io), 97 (io), 98 (io), 99 (io), 100 (io), 165 (io), 166 (io), 167 (io), 168 (io)
part C pins: 101 (io), 102 (io), 103 (io), 104 (io), 105 (io), 106 (io), 107 (io), 108 (io), 109 (io), 110 (io), 111 (io), 112 (io), 113 (io), 114 (io), 115 (io), 116 (io), 117 (io), 118 (io), 119 (io), 120 (io), 121 (io), 122 (io), 123 (io), 124 (io), 125 (io), 126 (io), 127 (io), 128 (io), 129 (io), 130 (io), 131 (io), 132 (io), 133 (io), 134 (io), 135 (io), 136 (io), 137 (io), 138 (io), 139 (io), 140 (io), 141 (io), 142 (io), 143 (io), 144 (io), 145 (io), 146 (io), 147 (io), 148 (io), 149 (io), 150 (io), 151 (io), 152 (io), 153 (io), 154 (io), 155 (io), 156 (io), 157 (io), 158 (io), 159 (io), 160 (io), 169 (io), 170 (io), 171 (io), 172 (io)

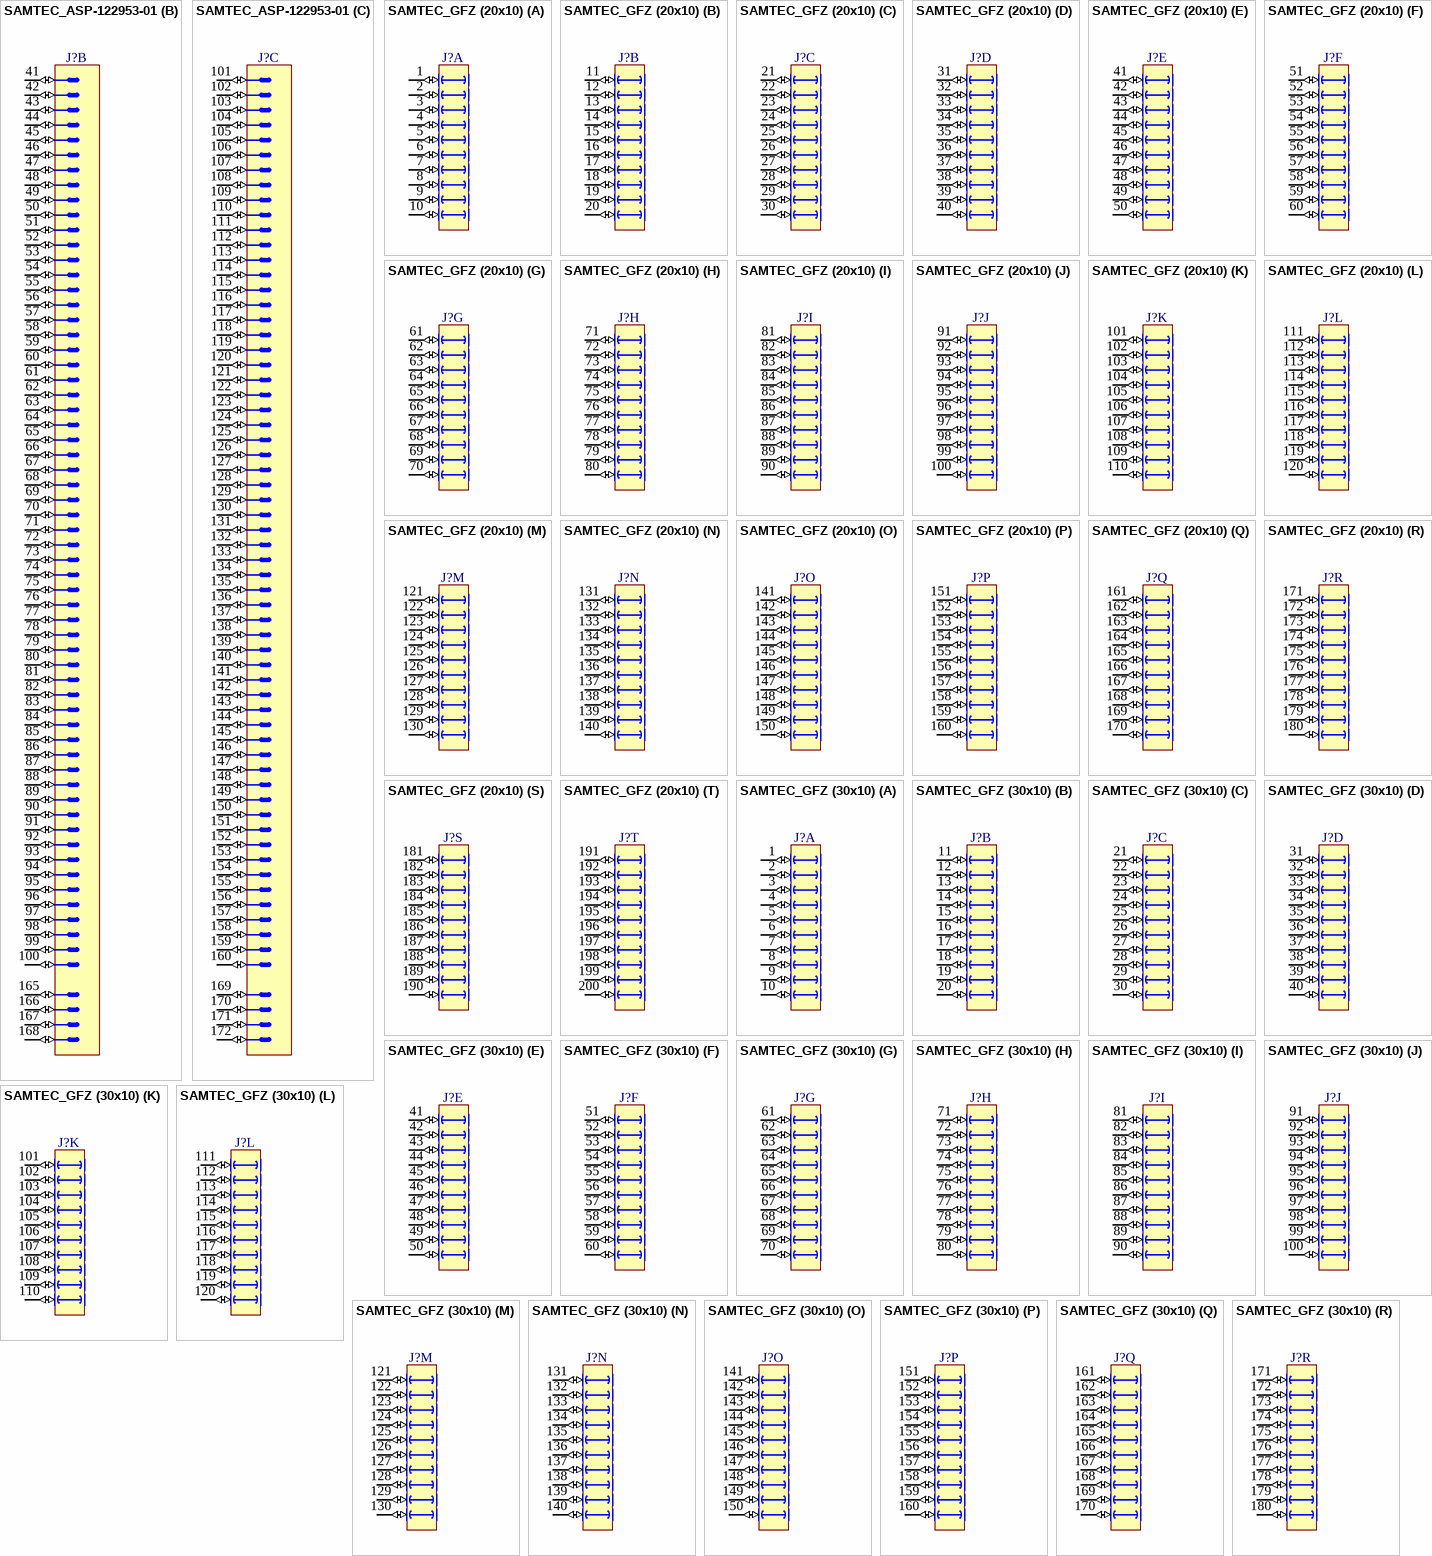
[diagram p66: symbols SAMTEC_ASP-122953-01 to SAMTEC_GFZ (30x10)]

## SAMTEC_ASP-122953-01
designator J?
Connector 160 Male 1x40 + 2x60 + 3x4 GND
part A pins: 1 (io), 2 (io), 3 (io), 4 (io), 5 (io), 6 (io), 7 (io), 8 (io), 9 (io), 10 (io), 11 (io), 12 (io), 13 (io), 14 (io), 15 (io), 16 (io), 17 (io), 18 (io), 19 (io), 20 (io), 21 (io), 22 (io), 23 (io), 24 (io), 25 (io), 26 (io), 27 (io), 28 (io), 29 (io), 30 (io), 31 (io), 32 (io), 33 (io), 34 (io), 35 (io), 36 (io), 37 (io), 38 (io), 39 (io), 40 (io), 161 (io), 162 (io), 163 (io), 164 (io)
part B pins: 41 (io), 42 (io), 43 (io), 44 (io), 45 (io), 46 (io), 47 (io), 48 (io), 49 (io), 50 (io), 51 (io), 52 (io), 53 (io), 54 (io), 55 (io), 56 (io), 57 (io), 58 (io), 59 (io), 60 (io), 61 (io), 62 (io), 63 (io), 64 (io), 65 (io), 66 (io), 67 (io), 68 (io), 69 (io), 70 (io), 71 (io), 72 (io), 73 (io), 74 (io), 75 (io), 76 (io), 77 (io), 78 (io), 79 (io), 80 (io), 81 (io), 82 (io), 83 (io), 84 (io), 85 (io), 86 (io), 87 (io), 88 (io), 89 (io), 90 (io), 91 (io), 92 (io), 93 (io), 94 (io), 95 (io), 96 (io), 97 (io), 98 (io), 99 (io), 100 (io), 165 (io), 166 (io), 167 (io), 168 (io)
part C pins: 101 (io), 102 (io), 103 (io), 104 (io), 105 (io), 106 (io), 107 (io), 108 (io), 109 (io), 110 (io), 111 (io), 112 (io), 113 (io), 114 (io), 115 (io), 116 (io), 117 (io), 118 (io), 119 (io), 120 (io), 121 (io), 122 (io), 123 (io), 124 (io), 125 (io), 126 (io), 127 (io), 128 (io), 129 (io), 130 (io), 131 (io), 132 (io), 133 (io), 134 (io), 135 (io), 136 (io), 137 (io), 138 (io), 139 (io), 140 (io), 141 (io), 142 (io), 143 (io), 144 (io), 145 (io), 146 (io), 147 (io), 148 (io), 149 (io), 150 (io), 151 (io), 152 (io), 153 (io), 154 (io), 155 (io), 156 (io), 157 (io), 158 (io), 159 (io), 160 (io), 169 (io), 170 (io), 171 (io), 172 (io)

## SAMTEC_GFZ (20x10)
designator J?
Connector 200 (10X20)
part A pins: 1 (io), 2 (io), 3 (io), 4 (io), 5 (io), 6 (io), 7 (io), 8 (io), 9 (io), 10 (io)
part B pins: 11 (io), 12 (io), 13 (io), 14 (io), 15 (io), 16 (io), 17 (io), 18 (io), 19 (io), 20 (io)
part C pins: 21 (io), 22 (io), 23 (io), 24 (io), 25 (io), 26 (io), 27 (io), 28 (io), 29 (io), 30 (io)
part D pins: 31 (io), 32 (io), 33 (io), 34 (io), 35 (io), 36 (io), 37 (io), 38 (io), 39 (io), 40 (io)
part E pins: 41 (io), 42 (io), 43 (io), 44 (io), 45 (io), 46 (io), 47 (io), 48 (io), 49 (io), 50 (io)
part F pins: 51 (io), 52 (io), 53 (io), 54 (io), 55 (io), 56 (io), 57 (io), 58 (io), 59 (io), 60 (io)
part G pins: 61 (io), 62 (io), 63 (io), 64 (io), 65 (io), 66 (io), 67 (io), 68 (io), 69 (io), 70 (io)
part H pins: 71 (io), 72 (io), 73 (io), 74 (io), 75 (io), 76 (io), 77 (io), 78 (io), 79 (io), 80 (io)
part I pins: 81 (io), 82 (io), 83 (io), 84 (io), 85 (io), 86 (io), 87 (io), 88 (io), 89 (io), 90 (io)
part J pins: 91 (io), 92 (io), 93 (io), 94 (io), 95 (io), 96 (io), 97 (io), 98 (io), 99 (io), 100 (io)
part K pins: 101 (io), 102 (io), 103 (io), 104 (io), 105 (io), 106 (io), 107 (io), 108 (io), 109 (io), 110 (io)
part L pins: 111 (io), 112 (io), 113 (io), 114 (io), 115 (io), 116 (io), 117 (io), 118 (io), 119 (io), 120 (io)
part M pins: 121 (io), 122 (io), 123 (io), 124 (io), 125 (io), 126 (io), 127 (io), 128 (io), 129 (io), 130 (io)
part N pins: 131 (io), 132 (io), 133 (io), 134 (io), 135 (io), 136 (io), 137 (io), 138 (io), 139 (io), 140 (io)
part O pins: 141 (io), 142 (io), 143 (io), 144 (io), 145 (io), 146 (io), 147 (io), 148 (io), 149 (io), 150 (io)
part P pins: 151 (io), 152 (io), 153 (io), 154 (io), 155 (io), 156 (io), 157 (io), 158 (io), 159 (io), 160 (io)
part Q pins: 161 (io), 162 (io), 163 (io), 164 (io), 165 (io), 166 (io), 167 (io), 168 (io), 169 (io), 170 (io)
part R pins: 171 (io), 172 (io), 173 (io), 174 (io), 175 (io), 176 (io), 177 (io), 178 (io), 179 (io), 180 (io)
part S pins: 181 (io), 182 (io), 183 (io), 184 (io), 185 (io), 186 (io), 187 (io), 188 (io), 189 (io), 190 (io)
part T pins: 191 (io), 192 (io), 193 (io), 194 (io), 195 (io), 196 (io), 197 (io), 198 (io), 199 (io), 200 (io)
1 alternate drawing of the same symbol

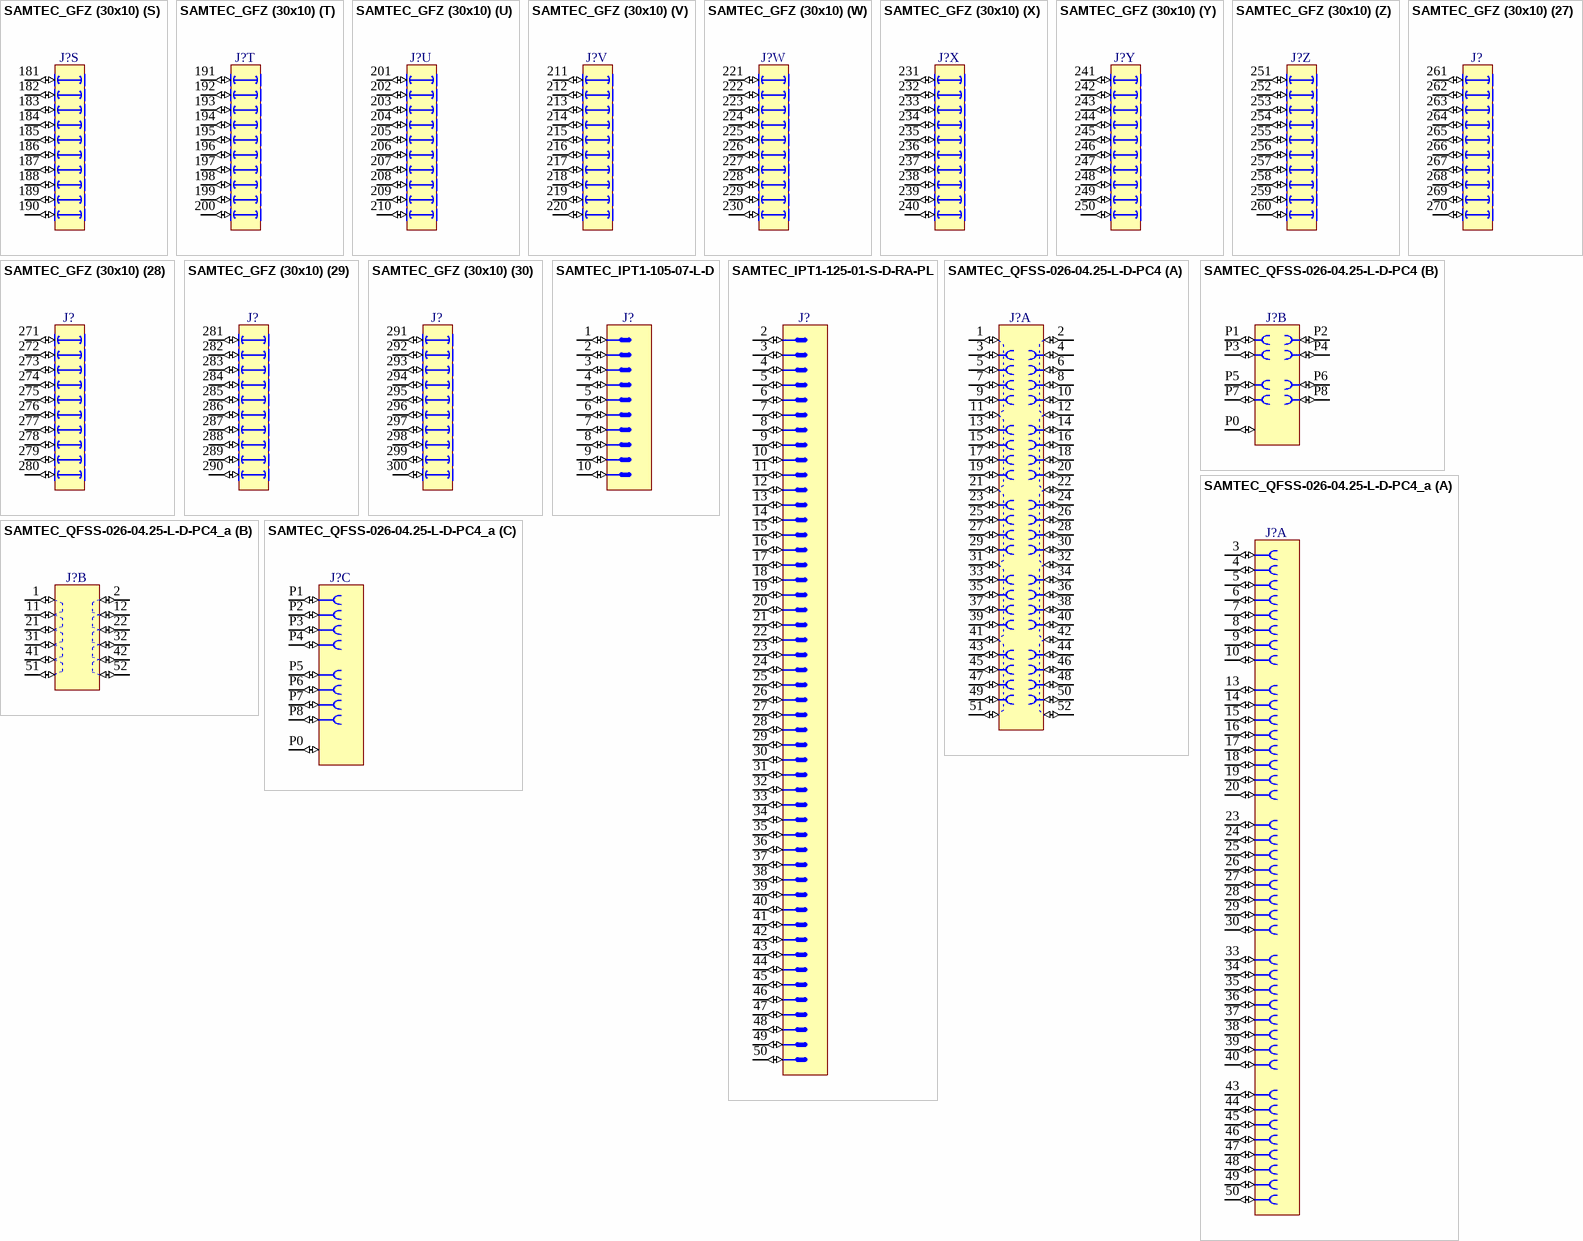
[diagram p67: symbols SAMTEC_GFZ (30x10) to SAMTEC_QFSS-026-04.25-L-D-PC4_a]